# Altium integrated library Xilinx Spartan-6L.IntLib: 84 symbols (part 4 of 20)
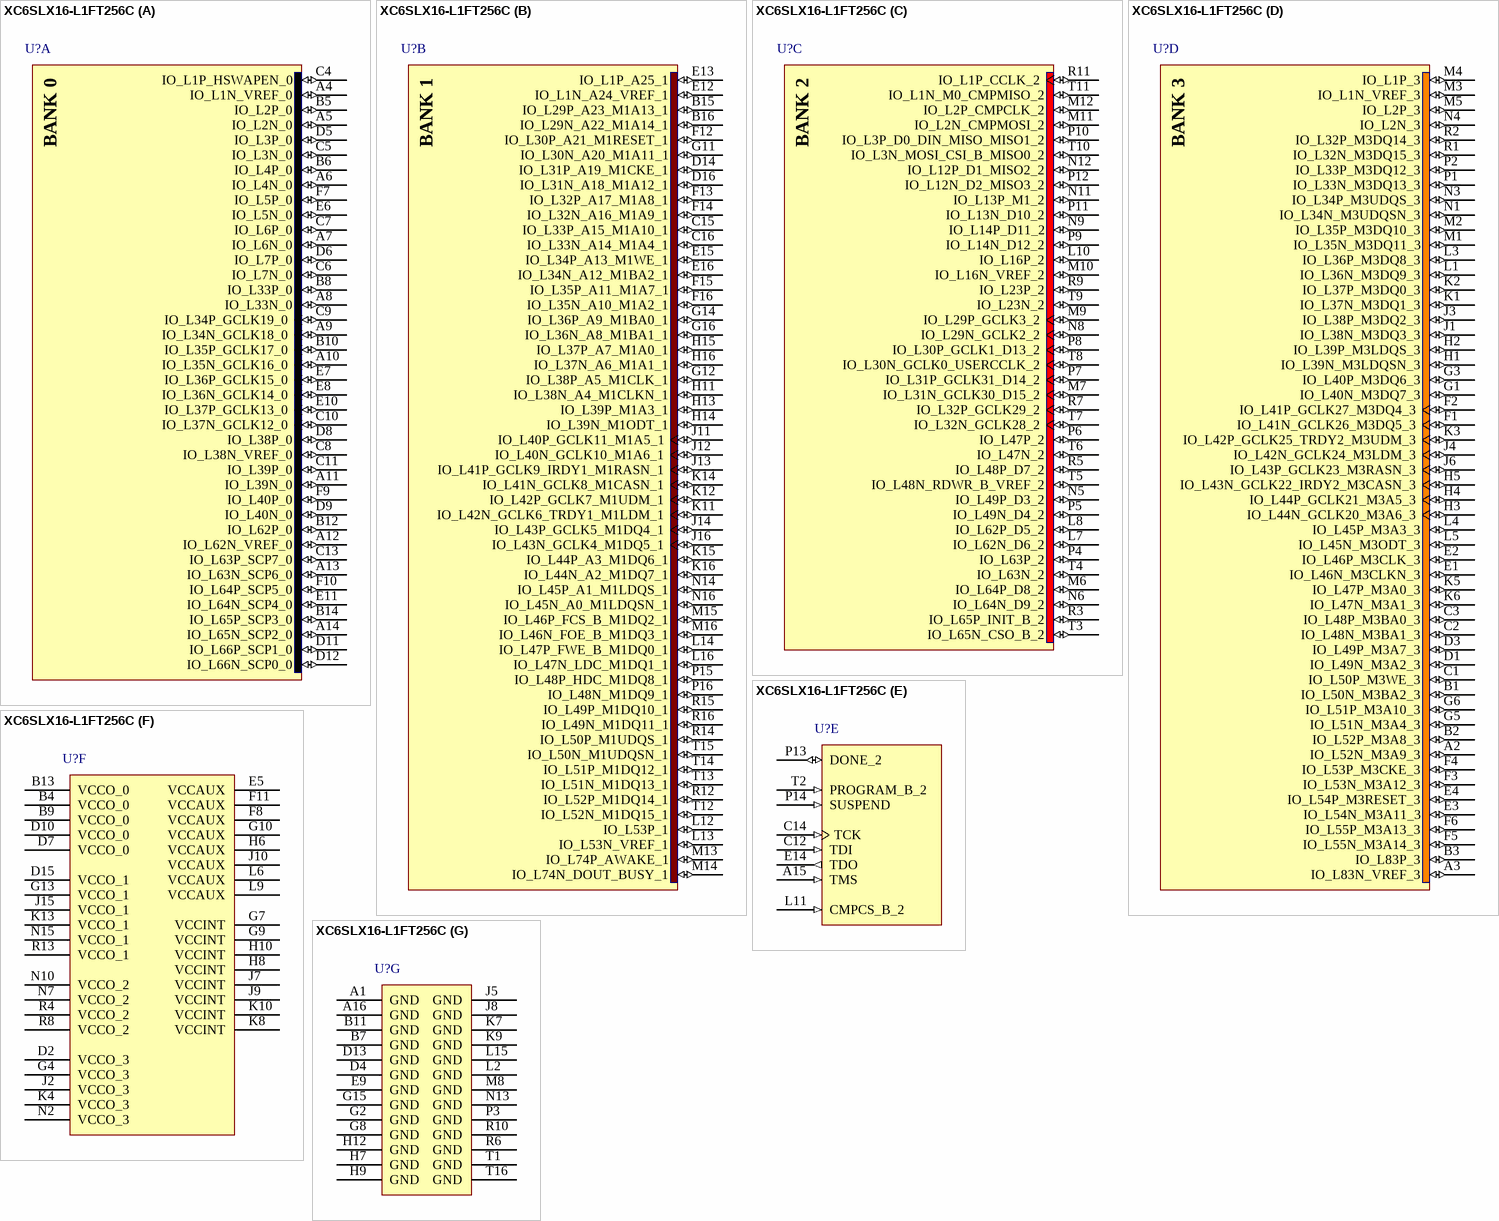
[diagram p113: symbol XC6SLX16-L1FT256C]

## XC6SLX16-L1FT256C
designator U?
Spartan-6 LX 1.0V FPGA, 186 User I/Os, 256-Ball Fine-Pitch Thin BGA (1.0mm Pitch), Low Power Version, Commercial Grade; DatasheetVersion: ver1.6, Nov-2010; PackageVersion: ver1.3, Oct-2007; PackageReference: FT256; PackageDescription: 256-Ball Fine Pitch Thin Ball Grid Array 1.00 mm Pitch (FT256); Code_JEDEC: MS-034-AAF-1*; ComponentLink1Description: Manufacturer URL; ComponentLink1URL: http://www.xilinx.com/; ComponentLink2Description: Spartan-6 Datasheet; ComponentLink2URL: http://www.xilinx.com/support/documentation/data_sheets/ds160.pdf; ComponentLink3Description: Spartan-6 Documents; ComponentLink3URL: http://www.xilinx.com/support/documentation/spartan-6.htm
footprint FT256 (BGA, 256-Leads, Body 17x17mm, Pitch 1mm)
part A pins: A4 IO_L1N_VREF_0 (io), A5 IO_L2N_0 (io), A6 IO_L4N_0 (io), A7 IO_L6N_0 (io), A8 IO_L33N_0 (io), A9 IO_L34N_GCLK18_0 (io), A10 IO_L35N_GCLK16_0 (io), A11 IO_L39N_0 (io), A12 IO_L62N_VREF_0 (io), A13 IO_L63N_SCP6_0 (io), A14 IO_L65N_SCP2_0 (io), B5 IO_L2P_0 (io), B6 IO_L4P_0 (io), B8 IO_L33P_0 (io), B10 IO_L35P_GCLK17_0 (io), B12 IO_L62P_0 (io), B14 IO_L65P_SCP3_0 (io), C4 IO_L1P_HSWAPEN_0 (io), C5 IO_L3N_0 (io), C6 IO_L7N_0 (io), C7 IO_L6P_0 (io), C8 IO_L38N_VREF_0 (io), C9 IO_L34P_GCLK19_0 (io), C10 IO_L37N_GCLK12_0 (io), C11 IO_L39P_0 (io), C13 IO_L63P_SCP7_0 (io), D5 IO_L3P_0 (io), D6 IO_L7P_0 (io), D8 IO_L38P_0 (io), D9 IO_L40N_0 (io), D11 IO_L66P_SCP1_0 (io), D12 IO_L66N_SCP0_0 (io), E6 IO_L5N_0 (io), E7 IO_L36P_GCLK15_0 (io), E8 IO_L36N_GCLK14_0 (io), E10 IO_L37P_GCLK13_0 (io), E11 IO_L64N_SCP4_0 (io), F7 IO_L5P_0 (io), F9 IO_L40P_0 (io), F10 IO_L64P_SCP5_0 (io)
part B pins: B15 IO_L29P_A23_M1A13_1 (io), B16 IO_L29N_A22_M1A14_1 (io), C15 IO_L33P_A15_M1A10_1 (io), C16 IO_L33N_A14_M1A4_1 (io), D14 IO_L31P_A19_M1CKE_1 (io), D16 IO_L31N_A18_M1A12_1 (io), E12 IO_L1N_A24_VREF_1 (io), E13 IO_L1P_A25_1 (io), E15 IO_L34P_A13_M1WE_1 (io), E16 IO_L34N_A12_M1BA2_1 (io), F12 IO_L30P_A21_M1RESET_1 (io), F13 IO_L32P_A17_M1A8_1 (io), F14 IO_L32N_A16_M1A9_1 (io), F15 IO_L35P_A11_M1A7_1 (io), F16 IO_L35N_A10_M1A2_1 (io), G11 IO_L30N_A20_M1A11_1 (io), G12 IO_L38P_A5_M1CLK_1 (io), G14 IO_L36P_A9_M1BA0_1 (io), G16 IO_L36N_A8_M1BA1_1 (io), H11 IO_L38N_A4_M1CLKN_1 (io), H13 IO_L39P_M1A3_1 (io), H14 IO_L39N_M1ODT_1 (io), H15 IO_L37P_A7_M1A0_1 (io), H16 IO_L37N_A6_M1A1_1 (io), J11 IO_L40P_GCLK11_M1A5_1 (io), J12 IO_L40N_GCLK10_M1A6_1 (io), J13 IO_L41P_GCLK9_IRDY1_M1RASN_1 (io), J14 IO_L43P_GCLK5_M1DQ4_1 (io), J16 IO_L43N_GCLK4_M1DQ5_1 (io), K11 IO_L42N_GCLK6_TRDY1_M1LDM_1 (io), K12 IO_L42P_GCLK7_M1UDM_1 (io), K14 IO_L41N_GCLK8_M1CASN_1 (io), K15 IO_L44P_A3_M1DQ6_1 (io), K16 IO_L44N_A2_M1DQ7_1 (io), L12 IO_L53P_1 (io), L13 IO_L53N_VREF_1 (io), L14 IO_L47P_FWE_B_M1DQ0_1 (io), L16 IO_L47N_LDC_M1DQ1_1 (io), M13 IO_L74P_AWAKE_1 (io), M14 IO_L74N_DOUT_BUSY_1 (io), M15 IO_L46P_FCS_B_M1DQ2_1 (io), M16 IO_L46N_FOE_B_M1DQ3_1 (io), N14 IO_L45P_A1_M1LDQS_1 (io), N16 IO_L45N_A0_M1LDQSN_1 (io), P15 IO_L48P_HDC_M1DQ8_1 (io), P16 IO_L48N_M1DQ9_1 (io), R12 IO_L52P_M1DQ14_1 (io), R14 IO_L50P_M1UDQS_1 (io), R15 IO_L49P_M1DQ10_1 (io), R16 IO_L49N_M1DQ11_1 (io), T12 IO_L52N_M1DQ15_1 (io), T13 IO_L51N_M1DQ13_1 (io), T14 IO_L51P_M1DQ12_1 (io), T15 IO_L50N_M1UDQSN_1 (io)
part C pins: L7 IO_L62N_D6_2 (io), L8 IO_L62P_D5_2 (io), L10 IO_L16P_2 (io), M6 IO_L64P_D8_2 (io), M7 IO_L31N_GCLK30_D15_2 (io), M9 IO_L29P_GCLK3_2 (io), M10 IO_L16N_VREF_2 (io), M11 IO_L2N_CMPMOSI_2 (io), M12 IO_L2P_CMPCLK_2 (io), N5 IO_L49P_D3_2 (io), N6 IO_L64N_D9_2 (io), N8 IO_L29N_GCLK2_2 (io), N9 IO_L14P_D11_2 (io), N11 IO_L13P_M1_2 (io), N12 IO_L12P_D1_MISO2_2 (io), P4 IO_L63P_2 (io), P5 IO_L49N_D4_2 (io), P6 IO_L47P_2 (io), P7 IO_L31P_GCLK31_D14_2 (io), P8 IO_L30P_GCLK1_D13_2 (io), P9 IO_L14N_D12_2 (io), P10 IO_L3P_D0_DIN_MISO_MISO1_2 (io), P11 IO_L13N_D10_2 (io), P12 IO_L12N_D2_MISO3_2 (io), R3 IO_L65P_INIT_B_2 (io), R5 IO_L48P_D7_2 (io), R7 IO_L32P_GCLK29_2 (io), R9 IO_L23P_2 (io), R11 IO_L1P_CCLK_2 (io), T3 IO_L65N_CSO_B_2 (io), T4 IO_L63N_2 (io), T5 IO_L48N_RDWR_B_VREF_2 (io), T6 IO_L47N_2 (io), T7 IO_L32N_GCLK28_2 (io), T8 IO_L30N_GCLK0_USERCCLK_2 (io), T9 IO_L23N_2 (io), T10 IO_L3N_MOSI_CSI_B_MISO0_2 (io), T11 IO_L1N_M0_CMPMISO_2 (io)
part D pins: A2 IO_L52N_M3A9_3 (io), A3 IO_L83N_VREF_3 (io), B1 IO_L50N_M3BA2_3 (io), B2 IO_L52P_M3A8_3 (io), B3 IO_L83P_3 (io), C1 IO_L50P_M3WE_3 (io), C2 IO_L48N_M3BA1_3 (io), C3 IO_L48P_M3BA0_3 (io), D1 IO_L49N_M3A2_3 (io), D3 IO_L49P_M3A7_3 (io), E1 IO_L46N_M3CLKN_3 (io), E2 IO_L46P_M3CLK_3 (io), E3 IO_L54N_M3A11_3 (io), E4 IO_L54P_M3RESET_3 (io), F1 IO_L41N_GCLK26_M3DQ5_3 (io), F2 IO_L41P_GCLK27_M3DQ4_3 (io), F3 IO_L53N_M3A12_3 (io), F4 IO_L53P_M3CKE_3 (io), F5 IO_L55N_M3A14_3 (io), F6 IO_L55P_M3A13_3 (io), G1 IO_L40N_M3DQ7_3 (io), G3 IO_L40P_M3DQ6_3 (io), G5 IO_L51N_M3A4_3 (io), G6 IO_L51P_M3A10_3 (io), H1 IO_L39N_M3LDQSN_3 (io), H2 IO_L39P_M3LDQS_3 (io), H3 IO_L44N_GCLK20_M3A6_3 (io), H4 IO_L44P_GCLK21_M3A5_3 (io), H5 IO_L43N_GCLK22_IRDY2_M3CASN_3 (io), J1 IO_L38N_M3DQ3_3 (io), J3 IO_L38P_M3DQ2_3 (io), J4 IO_L42N_GCLK24_M3LDM_3 (io), J6 IO_L43P_GCLK23_M3RASN_3 (io), K1 IO_L37N_M3DQ1_3 (io), K2 IO_L37P_M3DQ0_3 (io), K3 IO_L42P_GCLK25_TRDY2_M3UDM_3 (io), K5 IO_L47P_M3A0_3 (io), K6 IO_L47N_M3A1_3 (io), L1 IO_L36N_M3DQ9_3 (io), L3 IO_L36P_M3DQ8_3 (io), L4 IO_L45P_M3A3_3 (io), L5 IO_L45N_M3ODT_3 (io), M1 IO_L35N_M3DQ11_3 (io), M2 IO_L35P_M3DQ10_3 (io), M3 IO_L1N_VREF_3 (io), M4 IO_L1P_3 (io), M5 IO_L2P_3 (io), N1 IO_L34N_M3UDQSN_3 (io), N3 IO_L34P_M3UDQS_3 (io), N4 IO_L2N_3 (io), P1 IO_L33N_M3DQ13_3 (io), P2 IO_L33P_M3DQ12_3 (io), R1 IO_L32N_M3DQ15_3 (io), R2 IO_L32P_M3DQ14_3 (io)
part E pins: A15 TMS (in), C12 TDI (in), C14 TCK (in), E14 TDO (out), L11 CMPCS_B_2 (in), P13 DONE_2 (io), P14 SUSPEND (in), T2 PROGRAM_B_2 (in)
part F pins: B4 VCCO_0 (power), B9 VCCO_0 (power), B13 VCCO_0 (power), D2 VCCO_3 (power), D7 VCCO_0 (power), D10 VCCO_0 (power), D15 VCCO_1 (power), E5 VCCAUX (power), F8 VCCAUX (power), F11 VCCAUX (power), G4 VCCO_3 (power), G7 VCCINT (power), G9 VCCINT (power), G10 VCCAUX (power), G13 VCCO_1 (power), H6 VCCAUX (power), H8 VCCINT (power), H10 VCCINT (power), J2 VCCO_3 (power), J7 VCCINT (power), J9 VCCINT (power), J10 VCCAUX (power), J15 VCCO_1 (power), K4 VCCO_3 (power), K8 VCCINT (power), K10 VCCINT (power), K13 VCCO_1 (power), L6 VCCAUX (power), L9 VCCAUX (power), N2 VCCO_3 (power), N7 VCCO_2 (power), N10 VCCO_2 (power), N15 VCCO_1 (power), R4 VCCO_2 (power), R8 VCCO_2 (power), R13 VCCO_1 (power)
part G pins: A1 GND (power), A16 GND (power), B7 GND (power), B11 GND (power), D4 GND (power), D13 GND (power), E9 GND (power), G2 GND (power), G8 GND (power), G15 GND (power), H7 GND (power), H9 GND (power), H12 GND (power), J5 GND (power), J8 GND (power), K7 GND (power), K9 GND (power), L2 GND (power), L15 GND (power), M8 GND (power), N13 GND (power), P3 GND (power), R6 GND (power), R10 GND (power), T1 GND (power), T16 GND (power)
part A text: BANK 0
part B text: BANK 1
part C text: BANK 2
part D text: BANK 3

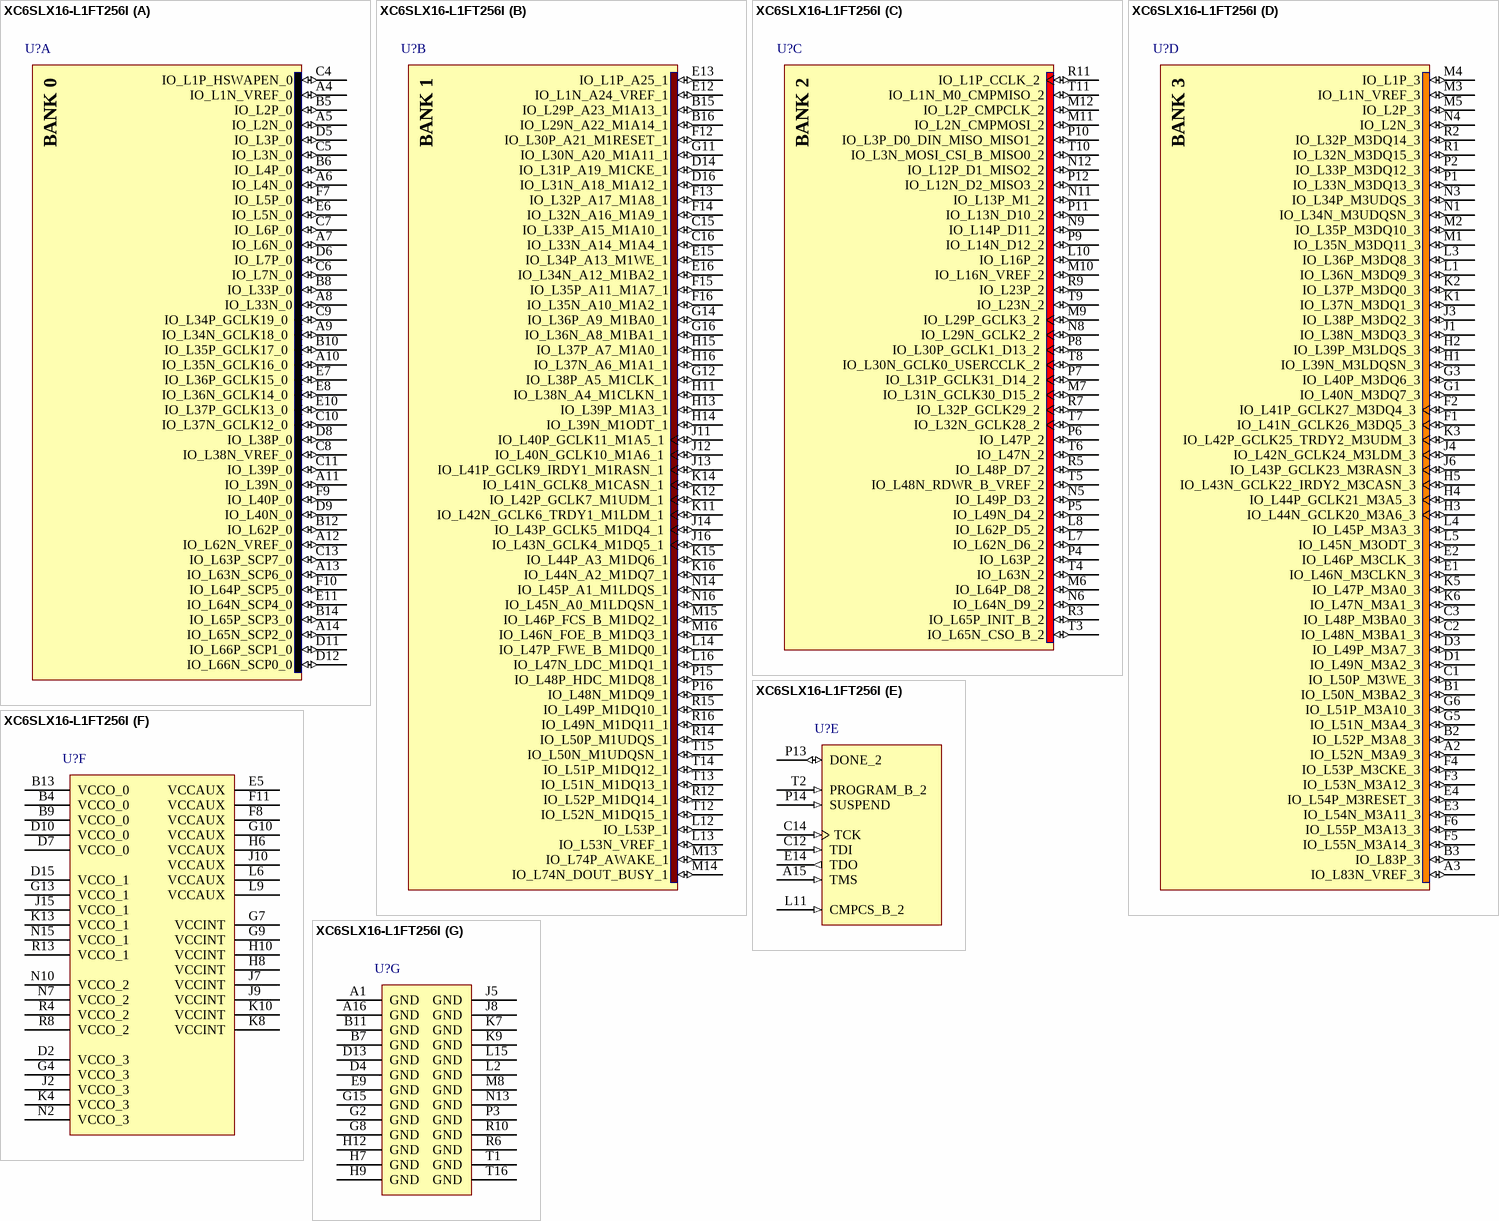
[diagram p20: symbol XC6SLX16-L1FT256I]

## XC6SLX16-L1FT256I
designator U?
Spartan-6 LX 1.0V FPGA, 186 User I/Os, 256-Ball Fine-Pitch Thin BGA (1.0mm Pitch), Low Power Version, Industrial Grade; DatasheetVersion: ver1.6, Nov-2010; PackageVersion: ver1.3, Oct-2007; PackageReference: FT256; PackageDescription: 256-Ball Fine Pitch Thin Ball Grid Array 1.00 mm Pitch (FT256); Code_JEDEC: MS-034-AAF-1*; ComponentLink1Description: Manufacturer URL; ComponentLink1URL: http://www.xilinx.com/; ComponentLink2Description: Spartan-6 Datasheet; ComponentLink2URL: http://www.xilinx.com/support/documentation/data_sheets/ds160.pdf; ComponentLink3Description: Spartan-6 Documents; ComponentLink3URL: http://www.xilinx.com/support/documentation/spartan-6.htm
footprint FT256 (BGA, 256-Leads, Body 17x17mm, Pitch 1mm)
part A pins: A4 IO_L1N_VREF_0 (io), A5 IO_L2N_0 (io), A6 IO_L4N_0 (io), A7 IO_L6N_0 (io), A8 IO_L33N_0 (io), A9 IO_L34N_GCLK18_0 (io), A10 IO_L35N_GCLK16_0 (io), A11 IO_L39N_0 (io), A12 IO_L62N_VREF_0 (io), A13 IO_L63N_SCP6_0 (io), A14 IO_L65N_SCP2_0 (io), B5 IO_L2P_0 (io), B6 IO_L4P_0 (io), B8 IO_L33P_0 (io), B10 IO_L35P_GCLK17_0 (io), B12 IO_L62P_0 (io), B14 IO_L65P_SCP3_0 (io), C4 IO_L1P_HSWAPEN_0 (io), C5 IO_L3N_0 (io), C6 IO_L7N_0 (io), C7 IO_L6P_0 (io), C8 IO_L38N_VREF_0 (io), C9 IO_L34P_GCLK19_0 (io), C10 IO_L37N_GCLK12_0 (io), C11 IO_L39P_0 (io), C13 IO_L63P_SCP7_0 (io), D5 IO_L3P_0 (io), D6 IO_L7P_0 (io), D8 IO_L38P_0 (io), D9 IO_L40N_0 (io), D11 IO_L66P_SCP1_0 (io), D12 IO_L66N_SCP0_0 (io), E6 IO_L5N_0 (io), E7 IO_L36P_GCLK15_0 (io), E8 IO_L36N_GCLK14_0 (io), E10 IO_L37P_GCLK13_0 (io), E11 IO_L64N_SCP4_0 (io), F7 IO_L5P_0 (io), F9 IO_L40P_0 (io), F10 IO_L64P_SCP5_0 (io)
part B pins: B15 IO_L29P_A23_M1A13_1 (io), B16 IO_L29N_A22_M1A14_1 (io), C15 IO_L33P_A15_M1A10_1 (io), C16 IO_L33N_A14_M1A4_1 (io), D14 IO_L31P_A19_M1CKE_1 (io), D16 IO_L31N_A18_M1A12_1 (io), E12 IO_L1N_A24_VREF_1 (io), E13 IO_L1P_A25_1 (io), E15 IO_L34P_A13_M1WE_1 (io), E16 IO_L34N_A12_M1BA2_1 (io), F12 IO_L30P_A21_M1RESET_1 (io), F13 IO_L32P_A17_M1A8_1 (io), F14 IO_L32N_A16_M1A9_1 (io), F15 IO_L35P_A11_M1A7_1 (io), F16 IO_L35N_A10_M1A2_1 (io), G11 IO_L30N_A20_M1A11_1 (io), G12 IO_L38P_A5_M1CLK_1 (io), G14 IO_L36P_A9_M1BA0_1 (io), G16 IO_L36N_A8_M1BA1_1 (io), H11 IO_L38N_A4_M1CLKN_1 (io), H13 IO_L39P_M1A3_1 (io), H14 IO_L39N_M1ODT_1 (io), H15 IO_L37P_A7_M1A0_1 (io), H16 IO_L37N_A6_M1A1_1 (io), J11 IO_L40P_GCLK11_M1A5_1 (io), J12 IO_L40N_GCLK10_M1A6_1 (io), J13 IO_L41P_GCLK9_IRDY1_M1RASN_1 (io), J14 IO_L43P_GCLK5_M1DQ4_1 (io), J16 IO_L43N_GCLK4_M1DQ5_1 (io), K11 IO_L42N_GCLK6_TRDY1_M1LDM_1 (io), K12 IO_L42P_GCLK7_M1UDM_1 (io), K14 IO_L41N_GCLK8_M1CASN_1 (io), K15 IO_L44P_A3_M1DQ6_1 (io), K16 IO_L44N_A2_M1DQ7_1 (io), L12 IO_L53P_1 (io), L13 IO_L53N_VREF_1 (io), L14 IO_L47P_FWE_B_M1DQ0_1 (io), L16 IO_L47N_LDC_M1DQ1_1 (io), M13 IO_L74P_AWAKE_1 (io), M14 IO_L74N_DOUT_BUSY_1 (io), M15 IO_L46P_FCS_B_M1DQ2_1 (io), M16 IO_L46N_FOE_B_M1DQ3_1 (io), N14 IO_L45P_A1_M1LDQS_1 (io), N16 IO_L45N_A0_M1LDQSN_1 (io), P15 IO_L48P_HDC_M1DQ8_1 (io), P16 IO_L48N_M1DQ9_1 (io), R12 IO_L52P_M1DQ14_1 (io), R14 IO_L50P_M1UDQS_1 (io), R15 IO_L49P_M1DQ10_1 (io), R16 IO_L49N_M1DQ11_1 (io), T12 IO_L52N_M1DQ15_1 (io), T13 IO_L51N_M1DQ13_1 (io), T14 IO_L51P_M1DQ12_1 (io), T15 IO_L50N_M1UDQSN_1 (io)
part C pins: L7 IO_L62N_D6_2 (io), L8 IO_L62P_D5_2 (io), L10 IO_L16P_2 (io), M6 IO_L64P_D8_2 (io), M7 IO_L31N_GCLK30_D15_2 (io), M9 IO_L29P_GCLK3_2 (io), M10 IO_L16N_VREF_2 (io), M11 IO_L2N_CMPMOSI_2 (io), M12 IO_L2P_CMPCLK_2 (io), N5 IO_L49P_D3_2 (io), N6 IO_L64N_D9_2 (io), N8 IO_L29N_GCLK2_2 (io), N9 IO_L14P_D11_2 (io), N11 IO_L13P_M1_2 (io), N12 IO_L12P_D1_MISO2_2 (io), P4 IO_L63P_2 (io), P5 IO_L49N_D4_2 (io), P6 IO_L47P_2 (io), P7 IO_L31P_GCLK31_D14_2 (io), P8 IO_L30P_GCLK1_D13_2 (io), P9 IO_L14N_D12_2 (io), P10 IO_L3P_D0_DIN_MISO_MISO1_2 (io), P11 IO_L13N_D10_2 (io), P12 IO_L12N_D2_MISO3_2 (io), R3 IO_L65P_INIT_B_2 (io), R5 IO_L48P_D7_2 (io), R7 IO_L32P_GCLK29_2 (io), R9 IO_L23P_2 (io), R11 IO_L1P_CCLK_2 (io), T3 IO_L65N_CSO_B_2 (io), T4 IO_L63N_2 (io), T5 IO_L48N_RDWR_B_VREF_2 (io), T6 IO_L47N_2 (io), T7 IO_L32N_GCLK28_2 (io), T8 IO_L30N_GCLK0_USERCCLK_2 (io), T9 IO_L23N_2 (io), T10 IO_L3N_MOSI_CSI_B_MISO0_2 (io), T11 IO_L1N_M0_CMPMISO_2 (io)
part D pins: A2 IO_L52N_M3A9_3 (io), A3 IO_L83N_VREF_3 (io), B1 IO_L50N_M3BA2_3 (io), B2 IO_L52P_M3A8_3 (io), B3 IO_L83P_3 (io), C1 IO_L50P_M3WE_3 (io), C2 IO_L48N_M3BA1_3 (io), C3 IO_L48P_M3BA0_3 (io), D1 IO_L49N_M3A2_3 (io), D3 IO_L49P_M3A7_3 (io), E1 IO_L46N_M3CLKN_3 (io), E2 IO_L46P_M3CLK_3 (io), E3 IO_L54N_M3A11_3 (io), E4 IO_L54P_M3RESET_3 (io), F1 IO_L41N_GCLK26_M3DQ5_3 (io), F2 IO_L41P_GCLK27_M3DQ4_3 (io), F3 IO_L53N_M3A12_3 (io), F4 IO_L53P_M3CKE_3 (io), F5 IO_L55N_M3A14_3 (io), F6 IO_L55P_M3A13_3 (io), G1 IO_L40N_M3DQ7_3 (io), G3 IO_L40P_M3DQ6_3 (io), G5 IO_L51N_M3A4_3 (io), G6 IO_L51P_M3A10_3 (io), H1 IO_L39N_M3LDQSN_3 (io), H2 IO_L39P_M3LDQS_3 (io), H3 IO_L44N_GCLK20_M3A6_3 (io), H4 IO_L44P_GCLK21_M3A5_3 (io), H5 IO_L43N_GCLK22_IRDY2_M3CASN_3 (io), J1 IO_L38N_M3DQ3_3 (io), J3 IO_L38P_M3DQ2_3 (io), J4 IO_L42N_GCLK24_M3LDM_3 (io), J6 IO_L43P_GCLK23_M3RASN_3 (io), K1 IO_L37N_M3DQ1_3 (io), K2 IO_L37P_M3DQ0_3 (io), K3 IO_L42P_GCLK25_TRDY2_M3UDM_3 (io), K5 IO_L47P_M3A0_3 (io), K6 IO_L47N_M3A1_3 (io), L1 IO_L36N_M3DQ9_3 (io), L3 IO_L36P_M3DQ8_3 (io), L4 IO_L45P_M3A3_3 (io), L5 IO_L45N_M3ODT_3 (io), M1 IO_L35N_M3DQ11_3 (io), M2 IO_L35P_M3DQ10_3 (io), M3 IO_L1N_VREF_3 (io), M4 IO_L1P_3 (io), M5 IO_L2P_3 (io), N1 IO_L34N_M3UDQSN_3 (io), N3 IO_L34P_M3UDQS_3 (io), N4 IO_L2N_3 (io), P1 IO_L33N_M3DQ13_3 (io), P2 IO_L33P_M3DQ12_3 (io), R1 IO_L32N_M3DQ15_3 (io), R2 IO_L32P_M3DQ14_3 (io)
part E pins: A15 TMS (in), C12 TDI (in), C14 TCK (in), E14 TDO (out), L11 CMPCS_B_2 (in), P13 DONE_2 (io), P14 SUSPEND (in), T2 PROGRAM_B_2 (in)
part F pins: B4 VCCO_0 (power), B9 VCCO_0 (power), B13 VCCO_0 (power), D2 VCCO_3 (power), D7 VCCO_0 (power), D10 VCCO_0 (power), D15 VCCO_1 (power), E5 VCCAUX (power), F8 VCCAUX (power), F11 VCCAUX (power), G4 VCCO_3 (power), G7 VCCINT (power), G9 VCCINT (power), G10 VCCAUX (power), G13 VCCO_1 (power), H6 VCCAUX (power), H8 VCCINT (power), H10 VCCINT (power), J2 VCCO_3 (power), J7 VCCINT (power), J9 VCCINT (power), J10 VCCAUX (power), J15 VCCO_1 (power), K4 VCCO_3 (power), K8 VCCINT (power), K10 VCCINT (power), K13 VCCO_1 (power), L6 VCCAUX (power), L9 VCCAUX (power), N2 VCCO_3 (power), N7 VCCO_2 (power), N10 VCCO_2 (power), N15 VCCO_1 (power), R4 VCCO_2 (power), R8 VCCO_2 (power), R13 VCCO_1 (power)
part G pins: A1 GND (power), A16 GND (power), B7 GND (power), B11 GND (power), D4 GND (power), D13 GND (power), E9 GND (power), G2 GND (power), G8 GND (power), G15 GND (power), H7 GND (power), H9 GND (power), H12 GND (power), J5 GND (power), J8 GND (power), K7 GND (power), K9 GND (power), L2 GND (power), L15 GND (power), M8 GND (power), N13 GND (power), P3 GND (power), R6 GND (power), R10 GND (power), T1 GND (power), T16 GND (power)
part A text: BANK 0
part B text: BANK 1
part C text: BANK 2
part D text: BANK 3

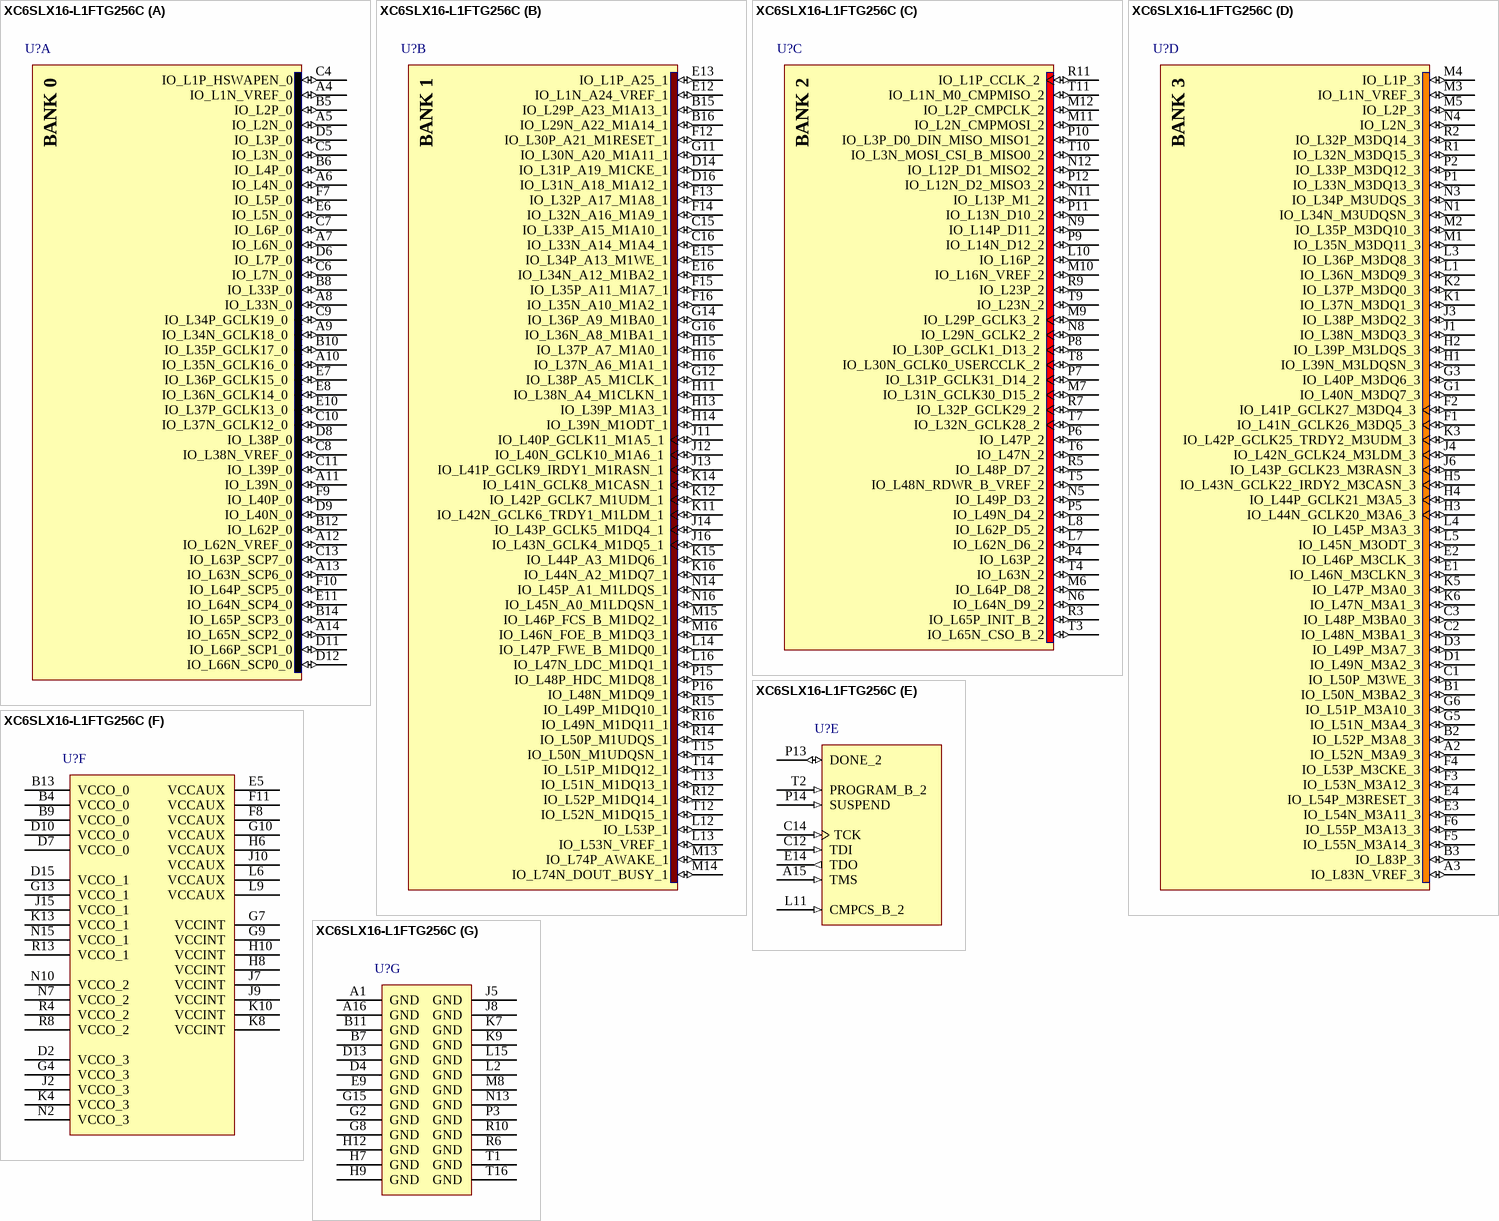
[diagram p21: symbol XC6SLX16-L1FTG256C]

## XC6SLX16-L1FTG256C
designator U?
Spartan-6 LX 1.0V FPGA, 186 User I/Os, 256-Ball Fine-Pitch Thin BGA (1.0mm Pitch), Low Power Version, Commercial Grade, Pb-Free; DatasheetVersion: ver1.6, Nov-2010; PackageVersion: ver1.3, Oct-2007; PackageReference: FTG256; PackageDescription: 256-Ball Fine Pitch Thin Ball Grid Array 1.00 mm Pitch (FTG256) - Pb-Free; Code_JEDEC: MS-034-AAF-1*; ComponentLink1Description: Manufacturer URL; ComponentLink1URL: http://www.xilinx.com/; ComponentLink2Description: Spartan-6 Datasheet; ComponentLink2URL: http://www.xilinx.com/support/documentation/data_sheets/ds160.pdf; ComponentLink3Description: Spartan-6 Documents; ComponentLink3URL: http://www.xilinx.com/support/documentation/spartan-6.htm
footprint FTG256 (BGA, 256-Leads, Body 17x17mm, Pitch 1mm)
part A pins: A4 IO_L1N_VREF_0 (io), A5 IO_L2N_0 (io), A6 IO_L4N_0 (io), A7 IO_L6N_0 (io), A8 IO_L33N_0 (io), A9 IO_L34N_GCLK18_0 (io), A10 IO_L35N_GCLK16_0 (io), A11 IO_L39N_0 (io), A12 IO_L62N_VREF_0 (io), A13 IO_L63N_SCP6_0 (io), A14 IO_L65N_SCP2_0 (io), B5 IO_L2P_0 (io), B6 IO_L4P_0 (io), B8 IO_L33P_0 (io), B10 IO_L35P_GCLK17_0 (io), B12 IO_L62P_0 (io), B14 IO_L65P_SCP3_0 (io), C4 IO_L1P_HSWAPEN_0 (io), C5 IO_L3N_0 (io), C6 IO_L7N_0 (io), C7 IO_L6P_0 (io), C8 IO_L38N_VREF_0 (io), C9 IO_L34P_GCLK19_0 (io), C10 IO_L37N_GCLK12_0 (io), C11 IO_L39P_0 (io), C13 IO_L63P_SCP7_0 (io), D5 IO_L3P_0 (io), D6 IO_L7P_0 (io), D8 IO_L38P_0 (io), D9 IO_L40N_0 (io), D11 IO_L66P_SCP1_0 (io), D12 IO_L66N_SCP0_0 (io), E6 IO_L5N_0 (io), E7 IO_L36P_GCLK15_0 (io), E8 IO_L36N_GCLK14_0 (io), E10 IO_L37P_GCLK13_0 (io), E11 IO_L64N_SCP4_0 (io), F7 IO_L5P_0 (io), F9 IO_L40P_0 (io), F10 IO_L64P_SCP5_0 (io)
part B pins: B15 IO_L29P_A23_M1A13_1 (io), B16 IO_L29N_A22_M1A14_1 (io), C15 IO_L33P_A15_M1A10_1 (io), C16 IO_L33N_A14_M1A4_1 (io), D14 IO_L31P_A19_M1CKE_1 (io), D16 IO_L31N_A18_M1A12_1 (io), E12 IO_L1N_A24_VREF_1 (io), E13 IO_L1P_A25_1 (io), E15 IO_L34P_A13_M1WE_1 (io), E16 IO_L34N_A12_M1BA2_1 (io), F12 IO_L30P_A21_M1RESET_1 (io), F13 IO_L32P_A17_M1A8_1 (io), F14 IO_L32N_A16_M1A9_1 (io), F15 IO_L35P_A11_M1A7_1 (io), F16 IO_L35N_A10_M1A2_1 (io), G11 IO_L30N_A20_M1A11_1 (io), G12 IO_L38P_A5_M1CLK_1 (io), G14 IO_L36P_A9_M1BA0_1 (io), G16 IO_L36N_A8_M1BA1_1 (io), H11 IO_L38N_A4_M1CLKN_1 (io), H13 IO_L39P_M1A3_1 (io), H14 IO_L39N_M1ODT_1 (io), H15 IO_L37P_A7_M1A0_1 (io), H16 IO_L37N_A6_M1A1_1 (io), J11 IO_L40P_GCLK11_M1A5_1 (io), J12 IO_L40N_GCLK10_M1A6_1 (io), J13 IO_L41P_GCLK9_IRDY1_M1RASN_1 (io), J14 IO_L43P_GCLK5_M1DQ4_1 (io), J16 IO_L43N_GCLK4_M1DQ5_1 (io), K11 IO_L42N_GCLK6_TRDY1_M1LDM_1 (io), K12 IO_L42P_GCLK7_M1UDM_1 (io), K14 IO_L41N_GCLK8_M1CASN_1 (io), K15 IO_L44P_A3_M1DQ6_1 (io), K16 IO_L44N_A2_M1DQ7_1 (io), L12 IO_L53P_1 (io), L13 IO_L53N_VREF_1 (io), L14 IO_L47P_FWE_B_M1DQ0_1 (io), L16 IO_L47N_LDC_M1DQ1_1 (io), M13 IO_L74P_AWAKE_1 (io), M14 IO_L74N_DOUT_BUSY_1 (io), M15 IO_L46P_FCS_B_M1DQ2_1 (io), M16 IO_L46N_FOE_B_M1DQ3_1 (io), N14 IO_L45P_A1_M1LDQS_1 (io), N16 IO_L45N_A0_M1LDQSN_1 (io), P15 IO_L48P_HDC_M1DQ8_1 (io), P16 IO_L48N_M1DQ9_1 (io), R12 IO_L52P_M1DQ14_1 (io), R14 IO_L50P_M1UDQS_1 (io), R15 IO_L49P_M1DQ10_1 (io), R16 IO_L49N_M1DQ11_1 (io), T12 IO_L52N_M1DQ15_1 (io), T13 IO_L51N_M1DQ13_1 (io), T14 IO_L51P_M1DQ12_1 (io), T15 IO_L50N_M1UDQSN_1 (io)
part C pins: L7 IO_L62N_D6_2 (io), L8 IO_L62P_D5_2 (io), L10 IO_L16P_2 (io), M6 IO_L64P_D8_2 (io), M7 IO_L31N_GCLK30_D15_2 (io), M9 IO_L29P_GCLK3_2 (io), M10 IO_L16N_VREF_2 (io), M11 IO_L2N_CMPMOSI_2 (io), M12 IO_L2P_CMPCLK_2 (io), N5 IO_L49P_D3_2 (io), N6 IO_L64N_D9_2 (io), N8 IO_L29N_GCLK2_2 (io), N9 IO_L14P_D11_2 (io), N11 IO_L13P_M1_2 (io), N12 IO_L12P_D1_MISO2_2 (io), P4 IO_L63P_2 (io), P5 IO_L49N_D4_2 (io), P6 IO_L47P_2 (io), P7 IO_L31P_GCLK31_D14_2 (io), P8 IO_L30P_GCLK1_D13_2 (io), P9 IO_L14N_D12_2 (io), P10 IO_L3P_D0_DIN_MISO_MISO1_2 (io), P11 IO_L13N_D10_2 (io), P12 IO_L12N_D2_MISO3_2 (io), R3 IO_L65P_INIT_B_2 (io), R5 IO_L48P_D7_2 (io), R7 IO_L32P_GCLK29_2 (io), R9 IO_L23P_2 (io), R11 IO_L1P_CCLK_2 (io), T3 IO_L65N_CSO_B_2 (io), T4 IO_L63N_2 (io), T5 IO_L48N_RDWR_B_VREF_2 (io), T6 IO_L47N_2 (io), T7 IO_L32N_GCLK28_2 (io), T8 IO_L30N_GCLK0_USERCCLK_2 (io), T9 IO_L23N_2 (io), T10 IO_L3N_MOSI_CSI_B_MISO0_2 (io), T11 IO_L1N_M0_CMPMISO_2 (io)
part D pins: A2 IO_L52N_M3A9_3 (io), A3 IO_L83N_VREF_3 (io), B1 IO_L50N_M3BA2_3 (io), B2 IO_L52P_M3A8_3 (io), B3 IO_L83P_3 (io), C1 IO_L50P_M3WE_3 (io), C2 IO_L48N_M3BA1_3 (io), C3 IO_L48P_M3BA0_3 (io), D1 IO_L49N_M3A2_3 (io), D3 IO_L49P_M3A7_3 (io), E1 IO_L46N_M3CLKN_3 (io), E2 IO_L46P_M3CLK_3 (io), E3 IO_L54N_M3A11_3 (io), E4 IO_L54P_M3RESET_3 (io), F1 IO_L41N_GCLK26_M3DQ5_3 (io), F2 IO_L41P_GCLK27_M3DQ4_3 (io), F3 IO_L53N_M3A12_3 (io), F4 IO_L53P_M3CKE_3 (io), F5 IO_L55N_M3A14_3 (io), F6 IO_L55P_M3A13_3 (io), G1 IO_L40N_M3DQ7_3 (io), G3 IO_L40P_M3DQ6_3 (io), G5 IO_L51N_M3A4_3 (io), G6 IO_L51P_M3A10_3 (io), H1 IO_L39N_M3LDQSN_3 (io), H2 IO_L39P_M3LDQS_3 (io), H3 IO_L44N_GCLK20_M3A6_3 (io), H4 IO_L44P_GCLK21_M3A5_3 (io), H5 IO_L43N_GCLK22_IRDY2_M3CASN_3 (io), J1 IO_L38N_M3DQ3_3 (io), J3 IO_L38P_M3DQ2_3 (io), J4 IO_L42N_GCLK24_M3LDM_3 (io), J6 IO_L43P_GCLK23_M3RASN_3 (io), K1 IO_L37N_M3DQ1_3 (io), K2 IO_L37P_M3DQ0_3 (io), K3 IO_L42P_GCLK25_TRDY2_M3UDM_3 (io), K5 IO_L47P_M3A0_3 (io), K6 IO_L47N_M3A1_3 (io), L1 IO_L36N_M3DQ9_3 (io), L3 IO_L36P_M3DQ8_3 (io), L4 IO_L45P_M3A3_3 (io), L5 IO_L45N_M3ODT_3 (io), M1 IO_L35N_M3DQ11_3 (io), M2 IO_L35P_M3DQ10_3 (io), M3 IO_L1N_VREF_3 (io), M4 IO_L1P_3 (io), M5 IO_L2P_3 (io), N1 IO_L34N_M3UDQSN_3 (io), N3 IO_L34P_M3UDQS_3 (io), N4 IO_L2N_3 (io), P1 IO_L33N_M3DQ13_3 (io), P2 IO_L33P_M3DQ12_3 (io), R1 IO_L32N_M3DQ15_3 (io), R2 IO_L32P_M3DQ14_3 (io)
part E pins: A15 TMS (in), C12 TDI (in), C14 TCK (in), E14 TDO (out), L11 CMPCS_B_2 (in), P13 DONE_2 (io), P14 SUSPEND (in), T2 PROGRAM_B_2 (in)
part F pins: B4 VCCO_0 (power), B9 VCCO_0 (power), B13 VCCO_0 (power), D2 VCCO_3 (power), D7 VCCO_0 (power), D10 VCCO_0 (power), D15 VCCO_1 (power), E5 VCCAUX (power), F8 VCCAUX (power), F11 VCCAUX (power), G4 VCCO_3 (power), G7 VCCINT (power), G9 VCCINT (power), G10 VCCAUX (power), G13 VCCO_1 (power), H6 VCCAUX (power), H8 VCCINT (power), H10 VCCINT (power), J2 VCCO_3 (power), J7 VCCINT (power), J9 VCCINT (power), J10 VCCAUX (power), J15 VCCO_1 (power), K4 VCCO_3 (power), K8 VCCINT (power), K10 VCCINT (power), K13 VCCO_1 (power), L6 VCCAUX (power), L9 VCCAUX (power), N2 VCCO_3 (power), N7 VCCO_2 (power), N10 VCCO_2 (power), N15 VCCO_1 (power), R4 VCCO_2 (power), R8 VCCO_2 (power), R13 VCCO_1 (power)
part G pins: A1 GND (power), A16 GND (power), B7 GND (power), B11 GND (power), D4 GND (power), D13 GND (power), E9 GND (power), G2 GND (power), G8 GND (power), G15 GND (power), H7 GND (power), H9 GND (power), H12 GND (power), J5 GND (power), J8 GND (power), K7 GND (power), K9 GND (power), L2 GND (power), L15 GND (power), M8 GND (power), N13 GND (power), P3 GND (power), R6 GND (power), R10 GND (power), T1 GND (power), T16 GND (power)
part A text: BANK 0
part B text: BANK 1
part C text: BANK 2
part D text: BANK 3

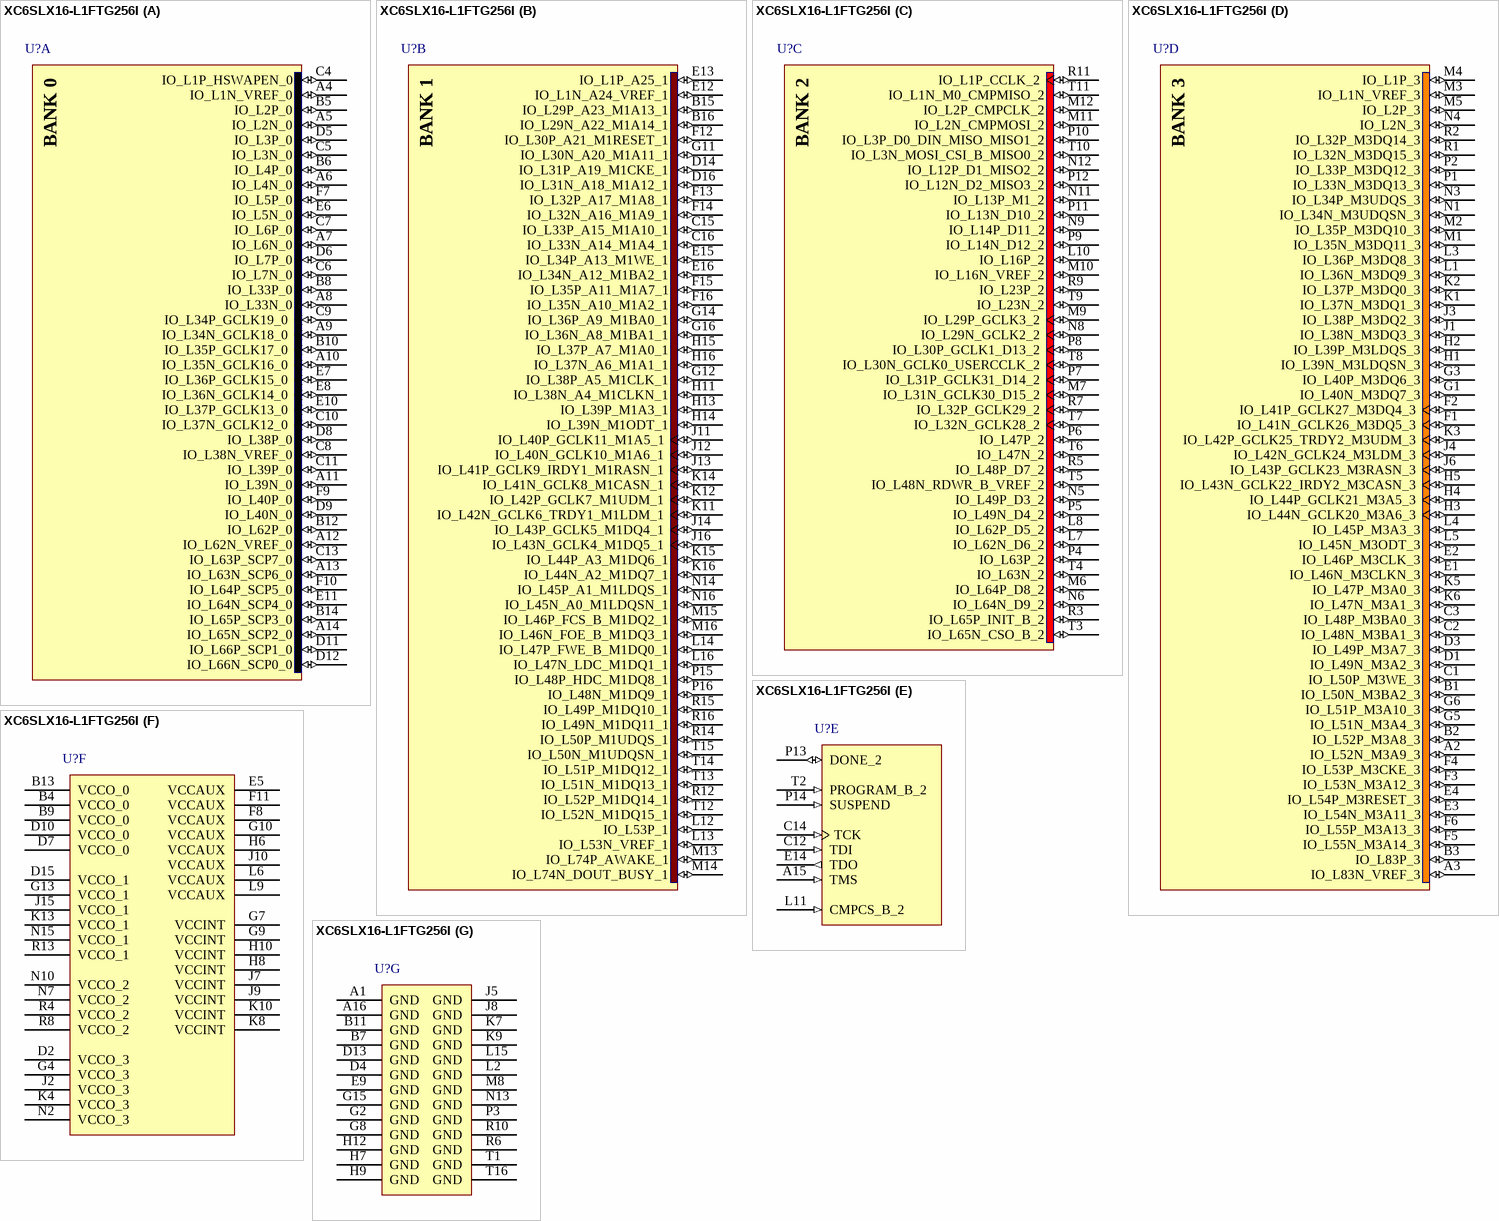
[diagram p22: symbol XC6SLX16-L1FTG256I]

## XC6SLX16-L1FTG256I
designator U?
Spartan-6 LX 1.0V FPGA, 186 User I/Os, 256-Ball Fine-Pitch Thin BGA (1.0mm Pitch), Low Power Version, Industrial Grade, Pb-Free; DatasheetVersion: ver1.6, Nov-2010; PackageVersion: ver1.3, Oct-2007; PackageReference: FTG256; PackageDescription: 256-Ball Fine Pitch Thin Ball Grid Array 1.00 mm Pitch (FTG256) - Pb-Free; Code_JEDEC: MS-034-AAF-1*; ComponentLink1Description: Manufacturer URL; ComponentLink1URL: http://www.xilinx.com/; ComponentLink2Description: Spartan-6 Datasheet; ComponentLink2URL: http://www.xilinx.com/support/documentation/data_sheets/ds160.pdf; ComponentLink3Description: Spartan-6 Documents; ComponentLink3URL: http://www.xilinx.com/support/documentation/spartan-6.htm
footprint FTG256 (BGA, 256-Leads, Body 17x17mm, Pitch 1mm)
part A pins: A4 IO_L1N_VREF_0 (io), A5 IO_L2N_0 (io), A6 IO_L4N_0 (io), A7 IO_L6N_0 (io), A8 IO_L33N_0 (io), A9 IO_L34N_GCLK18_0 (io), A10 IO_L35N_GCLK16_0 (io), A11 IO_L39N_0 (io), A12 IO_L62N_VREF_0 (io), A13 IO_L63N_SCP6_0 (io), A14 IO_L65N_SCP2_0 (io), B5 IO_L2P_0 (io), B6 IO_L4P_0 (io), B8 IO_L33P_0 (io), B10 IO_L35P_GCLK17_0 (io), B12 IO_L62P_0 (io), B14 IO_L65P_SCP3_0 (io), C4 IO_L1P_HSWAPEN_0 (io), C5 IO_L3N_0 (io), C6 IO_L7N_0 (io), C7 IO_L6P_0 (io), C8 IO_L38N_VREF_0 (io), C9 IO_L34P_GCLK19_0 (io), C10 IO_L37N_GCLK12_0 (io), C11 IO_L39P_0 (io), C13 IO_L63P_SCP7_0 (io), D5 IO_L3P_0 (io), D6 IO_L7P_0 (io), D8 IO_L38P_0 (io), D9 IO_L40N_0 (io), D11 IO_L66P_SCP1_0 (io), D12 IO_L66N_SCP0_0 (io), E6 IO_L5N_0 (io), E7 IO_L36P_GCLK15_0 (io), E8 IO_L36N_GCLK14_0 (io), E10 IO_L37P_GCLK13_0 (io), E11 IO_L64N_SCP4_0 (io), F7 IO_L5P_0 (io), F9 IO_L40P_0 (io), F10 IO_L64P_SCP5_0 (io)
part B pins: B15 IO_L29P_A23_M1A13_1 (io), B16 IO_L29N_A22_M1A14_1 (io), C15 IO_L33P_A15_M1A10_1 (io), C16 IO_L33N_A14_M1A4_1 (io), D14 IO_L31P_A19_M1CKE_1 (io), D16 IO_L31N_A18_M1A12_1 (io), E12 IO_L1N_A24_VREF_1 (io), E13 IO_L1P_A25_1 (io), E15 IO_L34P_A13_M1WE_1 (io), E16 IO_L34N_A12_M1BA2_1 (io), F12 IO_L30P_A21_M1RESET_1 (io), F13 IO_L32P_A17_M1A8_1 (io), F14 IO_L32N_A16_M1A9_1 (io), F15 IO_L35P_A11_M1A7_1 (io), F16 IO_L35N_A10_M1A2_1 (io), G11 IO_L30N_A20_M1A11_1 (io), G12 IO_L38P_A5_M1CLK_1 (io), G14 IO_L36P_A9_M1BA0_1 (io), G16 IO_L36N_A8_M1BA1_1 (io), H11 IO_L38N_A4_M1CLKN_1 (io), H13 IO_L39P_M1A3_1 (io), H14 IO_L39N_M1ODT_1 (io), H15 IO_L37P_A7_M1A0_1 (io), H16 IO_L37N_A6_M1A1_1 (io), J11 IO_L40P_GCLK11_M1A5_1 (io), J12 IO_L40N_GCLK10_M1A6_1 (io), J13 IO_L41P_GCLK9_IRDY1_M1RASN_1 (io), J14 IO_L43P_GCLK5_M1DQ4_1 (io), J16 IO_L43N_GCLK4_M1DQ5_1 (io), K11 IO_L42N_GCLK6_TRDY1_M1LDM_1 (io), K12 IO_L42P_GCLK7_M1UDM_1 (io), K14 IO_L41N_GCLK8_M1CASN_1 (io), K15 IO_L44P_A3_M1DQ6_1 (io), K16 IO_L44N_A2_M1DQ7_1 (io), L12 IO_L53P_1 (io), L13 IO_L53N_VREF_1 (io), L14 IO_L47P_FWE_B_M1DQ0_1 (io), L16 IO_L47N_LDC_M1DQ1_1 (io), M13 IO_L74P_AWAKE_1 (io), M14 IO_L74N_DOUT_BUSY_1 (io), M15 IO_L46P_FCS_B_M1DQ2_1 (io), M16 IO_L46N_FOE_B_M1DQ3_1 (io), N14 IO_L45P_A1_M1LDQS_1 (io), N16 IO_L45N_A0_M1LDQSN_1 (io), P15 IO_L48P_HDC_M1DQ8_1 (io), P16 IO_L48N_M1DQ9_1 (io), R12 IO_L52P_M1DQ14_1 (io), R14 IO_L50P_M1UDQS_1 (io), R15 IO_L49P_M1DQ10_1 (io), R16 IO_L49N_M1DQ11_1 (io), T12 IO_L52N_M1DQ15_1 (io), T13 IO_L51N_M1DQ13_1 (io), T14 IO_L51P_M1DQ12_1 (io), T15 IO_L50N_M1UDQSN_1 (io)
part C pins: L7 IO_L62N_D6_2 (io), L8 IO_L62P_D5_2 (io), L10 IO_L16P_2 (io), M6 IO_L64P_D8_2 (io), M7 IO_L31N_GCLK30_D15_2 (io), M9 IO_L29P_GCLK3_2 (io), M10 IO_L16N_VREF_2 (io), M11 IO_L2N_CMPMOSI_2 (io), M12 IO_L2P_CMPCLK_2 (io), N5 IO_L49P_D3_2 (io), N6 IO_L64N_D9_2 (io), N8 IO_L29N_GCLK2_2 (io), N9 IO_L14P_D11_2 (io), N11 IO_L13P_M1_2 (io), N12 IO_L12P_D1_MISO2_2 (io), P4 IO_L63P_2 (io), P5 IO_L49N_D4_2 (io), P6 IO_L47P_2 (io), P7 IO_L31P_GCLK31_D14_2 (io), P8 IO_L30P_GCLK1_D13_2 (io), P9 IO_L14N_D12_2 (io), P10 IO_L3P_D0_DIN_MISO_MISO1_2 (io), P11 IO_L13N_D10_2 (io), P12 IO_L12N_D2_MISO3_2 (io), R3 IO_L65P_INIT_B_2 (io), R5 IO_L48P_D7_2 (io), R7 IO_L32P_GCLK29_2 (io), R9 IO_L23P_2 (io), R11 IO_L1P_CCLK_2 (io), T3 IO_L65N_CSO_B_2 (io), T4 IO_L63N_2 (io), T5 IO_L48N_RDWR_B_VREF_2 (io), T6 IO_L47N_2 (io), T7 IO_L32N_GCLK28_2 (io), T8 IO_L30N_GCLK0_USERCCLK_2 (io), T9 IO_L23N_2 (io), T10 IO_L3N_MOSI_CSI_B_MISO0_2 (io), T11 IO_L1N_M0_CMPMISO_2 (io)
part D pins: A2 IO_L52N_M3A9_3 (io), A3 IO_L83N_VREF_3 (io), B1 IO_L50N_M3BA2_3 (io), B2 IO_L52P_M3A8_3 (io), B3 IO_L83P_3 (io), C1 IO_L50P_M3WE_3 (io), C2 IO_L48N_M3BA1_3 (io), C3 IO_L48P_M3BA0_3 (io), D1 IO_L49N_M3A2_3 (io), D3 IO_L49P_M3A7_3 (io), E1 IO_L46N_M3CLKN_3 (io), E2 IO_L46P_M3CLK_3 (io), E3 IO_L54N_M3A11_3 (io), E4 IO_L54P_M3RESET_3 (io), F1 IO_L41N_GCLK26_M3DQ5_3 (io), F2 IO_L41P_GCLK27_M3DQ4_3 (io), F3 IO_L53N_M3A12_3 (io), F4 IO_L53P_M3CKE_3 (io), F5 IO_L55N_M3A14_3 (io), F6 IO_L55P_M3A13_3 (io), G1 IO_L40N_M3DQ7_3 (io), G3 IO_L40P_M3DQ6_3 (io), G5 IO_L51N_M3A4_3 (io), G6 IO_L51P_M3A10_3 (io), H1 IO_L39N_M3LDQSN_3 (io), H2 IO_L39P_M3LDQS_3 (io), H3 IO_L44N_GCLK20_M3A6_3 (io), H4 IO_L44P_GCLK21_M3A5_3 (io), H5 IO_L43N_GCLK22_IRDY2_M3CASN_3 (io), J1 IO_L38N_M3DQ3_3 (io), J3 IO_L38P_M3DQ2_3 (io), J4 IO_L42N_GCLK24_M3LDM_3 (io), J6 IO_L43P_GCLK23_M3RASN_3 (io), K1 IO_L37N_M3DQ1_3 (io), K2 IO_L37P_M3DQ0_3 (io), K3 IO_L42P_GCLK25_TRDY2_M3UDM_3 (io), K5 IO_L47P_M3A0_3 (io), K6 IO_L47N_M3A1_3 (io), L1 IO_L36N_M3DQ9_3 (io), L3 IO_L36P_M3DQ8_3 (io), L4 IO_L45P_M3A3_3 (io), L5 IO_L45N_M3ODT_3 (io), M1 IO_L35N_M3DQ11_3 (io), M2 IO_L35P_M3DQ10_3 (io), M3 IO_L1N_VREF_3 (io), M4 IO_L1P_3 (io), M5 IO_L2P_3 (io), N1 IO_L34N_M3UDQSN_3 (io), N3 IO_L34P_M3UDQS_3 (io), N4 IO_L2N_3 (io), P1 IO_L33N_M3DQ13_3 (io), P2 IO_L33P_M3DQ12_3 (io), R1 IO_L32N_M3DQ15_3 (io), R2 IO_L32P_M3DQ14_3 (io)
part E pins: A15 TMS (in), C12 TDI (in), C14 TCK (in), E14 TDO (out), L11 CMPCS_B_2 (in), P13 DONE_2 (io), P14 SUSPEND (in), T2 PROGRAM_B_2 (in)
part F pins: B4 VCCO_0 (power), B9 VCCO_0 (power), B13 VCCO_0 (power), D2 VCCO_3 (power), D7 VCCO_0 (power), D10 VCCO_0 (power), D15 VCCO_1 (power), E5 VCCAUX (power), F8 VCCAUX (power), F11 VCCAUX (power), G4 VCCO_3 (power), G7 VCCINT (power), G9 VCCINT (power), G10 VCCAUX (power), G13 VCCO_1 (power), H6 VCCAUX (power), H8 VCCINT (power), H10 VCCINT (power), J2 VCCO_3 (power), J7 VCCINT (power), J9 VCCINT (power), J10 VCCAUX (power), J15 VCCO_1 (power), K4 VCCO_3 (power), K8 VCCINT (power), K10 VCCINT (power), K13 VCCO_1 (power), L6 VCCAUX (power), L9 VCCAUX (power), N2 VCCO_3 (power), N7 VCCO_2 (power), N10 VCCO_2 (power), N15 VCCO_1 (power), R4 VCCO_2 (power), R8 VCCO_2 (power), R13 VCCO_1 (power)
part G pins: A1 GND (power), A16 GND (power), B7 GND (power), B11 GND (power), D4 GND (power), D13 GND (power), E9 GND (power), G2 GND (power), G8 GND (power), G15 GND (power), H7 GND (power), H9 GND (power), H12 GND (power), J5 GND (power), J8 GND (power), K7 GND (power), K9 GND (power), L2 GND (power), L15 GND (power), M8 GND (power), N13 GND (power), P3 GND (power), R6 GND (power), R10 GND (power), T1 GND (power), T16 GND (power)
part A text: BANK 0
part B text: BANK 1
part C text: BANK 2
part D text: BANK 3

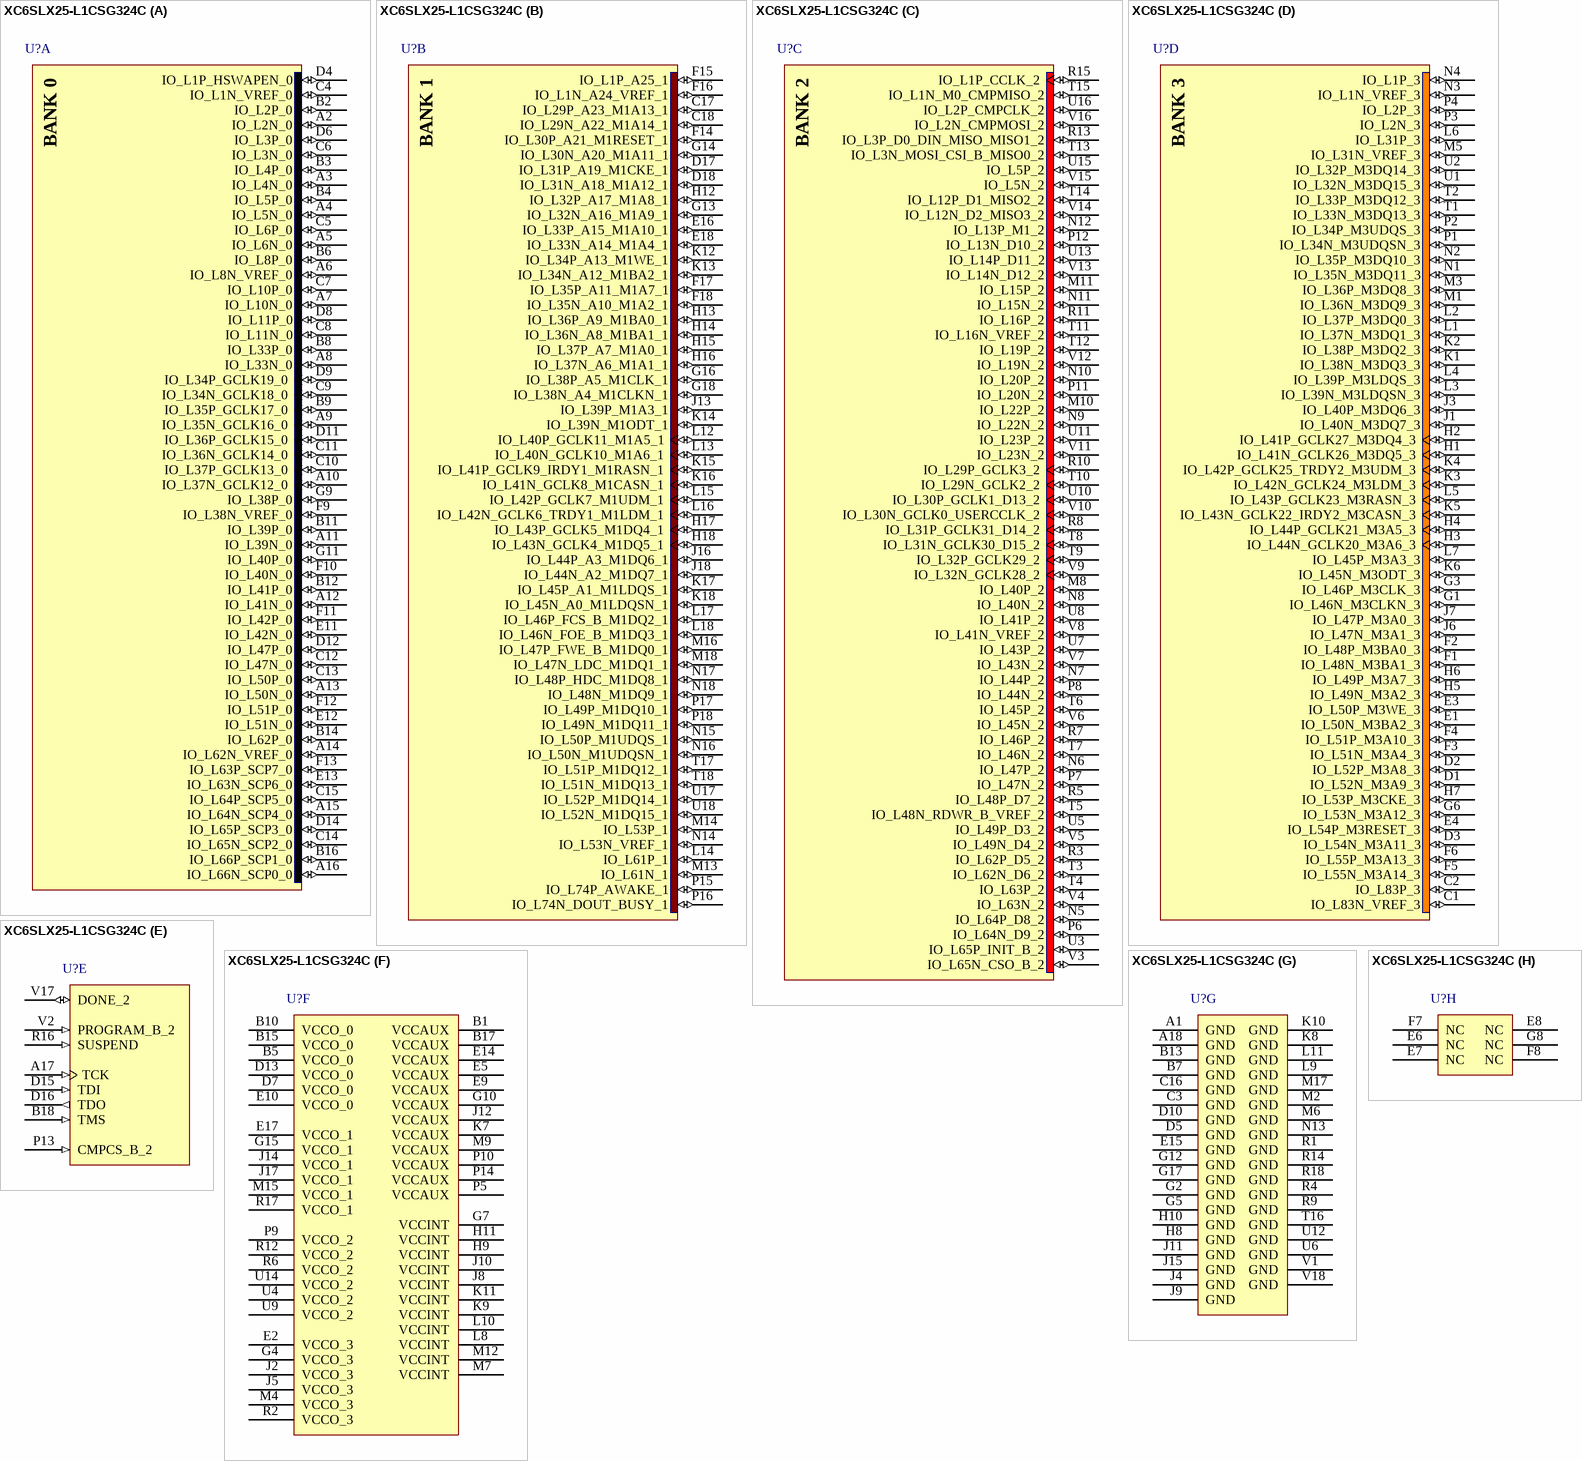
[diagram p23: symbol XC6SLX25-L1CSG324C]

## XC6SLX25-L1CSG324C
designator U?
Spartan-6 LX 1.0V FPGA, 226 User I/Os, 324-Ball Chip-Scale BGA (0.8mm Pitch), Low Power Version, Commercial Grade, Pb-Free; DatasheetVersion: ver1.6, Nov-2010; PackageVersion: ver1.1, Nov-2009; PackageReference: CSG324; PackageDescription: 324-Ball Chip-Scale BGA (CSG324) Package, 0.8 mm Pitch; Code_JEDEC: MO-275-KKAC-1; ComponentLink1Description: Manufacturer URL; ComponentLink1URL: http://www.xilinx.com/; ComponentLink2Description: Spartan-6 Datasheet; ComponentLink2URL: http://www.xilinx.com/support/documentation/data_sheets/ds160.pdf; ComponentLink3Description: Spartan-6 Documents; ComponentLink3URL: http://www.xilinx.com/support/documentation/spartan-6.htm
footprint CSG324 (BGA, 324-Leads, Body 15x15mm, Pitch 0.8mm)
part A pins: A2 IO_L2N_0 (io), A3 IO_L4N_0 (io), A4 IO_L5N_0 (io), A5 IO_L6N_0 (io), A6 IO_L8N_VREF_0 (io), A7 IO_L10N_0 (io), A8 IO_L33N_0 (io), A9 IO_L35N_GCLK16_0 (io), A10 IO_L37N_GCLK12_0 (io), A11 IO_L39N_0 (io), A12 IO_L41N_0 (io), A13 IO_L50N_0 (io), A14 IO_L62N_VREF_0 (io), A15 IO_L64N_SCP4_0 (io), A16 IO_L66N_SCP0_0 (io), B2 IO_L2P_0 (io), B3 IO_L4P_0 (io), B4 IO_L5P_0 (io), B6 IO_L8P_0 (io), B8 IO_L33P_0 (io), B9 IO_L35P_GCLK17_0 (io), B11 IO_L39P_0 (io), B12 IO_L41P_0 (io), B14 IO_L62P_0 (io), B16 IO_L66P_SCP1_0 (io), C4 IO_L1N_VREF_0 (io), C5 IO_L6P_0 (io), C6 IO_L3N_0 (io), C7 IO_L10P_0 (io), C8 IO_L11N_0 (io), C9 IO_L34N_GCLK18_0 (io), C10 IO_L37P_GCLK13_0 (io), C11 IO_L36N_GCLK14_0 (io), C12 IO_L47N_0 (io), C13 IO_L50P_0 (io), C14 IO_L65N_SCP2_0 (io), C15 IO_L64P_SCP5_0 (io), D4 IO_L1P_HSWAPEN_0 (io), D6 IO_L3P_0 (io), D8 IO_L11P_0 (io), D9 IO_L34P_GCLK19_0 (io), D11 IO_L36P_GCLK15_0 (io), D12 IO_L47P_0 (io), D14 IO_L65P_SCP3_0 (io), E11 IO_L42N_0 (io), E12 IO_L51N_0 (io), E13 IO_L63N_SCP6_0 (io), F9 IO_L38N_VREF_0 (io), F10 IO_L40N_0 (io), F11 IO_L42P_0 (io), F12 IO_L51P_0 (io), F13 IO_L63P_SCP7_0 (io), G9 IO_L38P_0 (io), G11 IO_L40P_0 (io)
part B pins: C17 IO_L29P_A23_M1A13_1 (io), C18 IO_L29N_A22_M1A14_1 (io), D17 IO_L31P_A19_M1CKE_1 (io), D18 IO_L31N_A18_M1A12_1 (io), E16 IO_L33P_A15_M1A10_1 (io), E18 IO_L33N_A14_M1A4_1 (io), F14 IO_L30P_A21_M1RESET_1 (io), F15 IO_L1P_A25_1 (io), F16 IO_L1N_A24_VREF_1 (io), F17 IO_L35P_A11_M1A7_1 (io), F18 IO_L35N_A10_M1A2_1 (io), G13 IO_L32N_A16_M1A9_1 (io), G14 IO_L30N_A20_M1A11_1 (io), G16 IO_L38P_A5_M1CLK_1 (io), G18 IO_L38N_A4_M1CLKN_1 (io), H12 IO_L32P_A17_M1A8_1 (io), H13 IO_L36P_A9_M1BA0_1 (io), H14 IO_L36N_A8_M1BA1_1 (io), H15 IO_L37P_A7_M1A0_1 (io), H16 IO_L37N_A6_M1A1_1 (io), H17 IO_L43P_GCLK5_M1DQ4_1 (io), H18 IO_L43N_GCLK4_M1DQ5_1 (io), J13 IO_L39P_M1A3_1 (io), J16 IO_L44P_A3_M1DQ6_1 (io), J18 IO_L44N_A2_M1DQ7_1 (io), K12 IO_L34P_A13_M1WE_1 (io), K13 IO_L34N_A12_M1BA2_1 (io), K14 IO_L39N_M1ODT_1 (io), K15 IO_L41P_GCLK9_IRDY1_M1RASN_1 (io), K16 IO_L41N_GCLK8_M1CASN_1 (io), K17 IO_L45P_A1_M1LDQS_1 (io), K18 IO_L45N_A0_M1LDQSN_1 (io), L12 IO_L40P_GCLK11_M1A5_1 (io), L13 IO_L40N_GCLK10_M1A6_1 (io), L14 IO_L61P_1 (io), L15 IO_L42P_GCLK7_M1UDM_1 (io), L16 IO_L42N_GCLK6_TRDY1_M1LDM_1 (io), L17 IO_L46P_FCS_B_M1DQ2_1 (io), L18 IO_L46N_FOE_B_M1DQ3_1 (io), M13 IO_L61N_1 (io), M14 IO_L53P_1 (io), M16 IO_L47P_FWE_B_M1DQ0_1 (io), M18 IO_L47N_LDC_M1DQ1_1 (io), N14 IO_L53N_VREF_1 (io), N15 IO_L50P_M1UDQS_1 (io), N16 IO_L50N_M1UDQSN_1 (io), N17 IO_L48P_HDC_M1DQ8_1 (io), N18 IO_L48N_M1DQ9_1 (io), P15 IO_L74P_AWAKE_1 (io), P16 IO_L74N_DOUT_BUSY_1 (io), P17 IO_L49P_M1DQ10_1 (io), P18 IO_L49N_M1DQ11_1 (io), T17 IO_L51P_M1DQ12_1 (io), T18 IO_L51N_M1DQ13_1 (io), U17 IO_L52P_M1DQ14_1 (io), U18 IO_L52N_M1DQ15_1 (io)
part C pins: M8 IO_L40P_2 (io), M10 IO_L22P_2 (io), M11 IO_L15P_2 (io), N5 IO_L64P_D8_2 (io), N6 IO_L47P_2 (io), N7 IO_L44P_2 (io), N8 IO_L40N_2 (io), N9 IO_L22N_2 (io), N10 IO_L20P_2 (io), N11 IO_L15N_2 (io), N12 IO_L13P_M1_2 (io), P6 IO_L64N_D9_2 (io), P7 IO_L47N_2 (io), P8 IO_L44N_2 (io), P11 IO_L20N_2 (io), P12 IO_L13N_D10_2 (io), R3 IO_L62P_D5_2 (io), R5 IO_L48P_D7_2 (io), R7 IO_L46P_2 (io), R8 IO_L31P_GCLK31_D14_2 (io), R10 IO_L29P_GCLK3_2 (io), R11 IO_L16P_2 (io), R13 IO_L3P_D0_DIN_MISO_MISO1_2 (io), R15 IO_L1P_CCLK_2 (io), T3 IO_L62N_D6_2 (io), T4 IO_L63P_2 (io), T5 IO_L48N_RDWR_B_VREF_2 (io), T6 IO_L45P_2 (io), T7 IO_L46N_2 (io), T8 IO_L31N_GCLK30_D15_2 (io), T9 IO_L32P_GCLK29_2 (io), T10 IO_L29N_GCLK2_2 (io), T11 IO_L16N_VREF_2 (io), T12 IO_L19P_2 (io), T13 IO_L3N_MOSI_CSI_B_MISO0_2 (io), T14 IO_L12P_D1_MISO2_2 (io), T15 IO_L1N_M0_CMPMISO_2 (io), U3 IO_L65P_INIT_B_2 (io), U5 IO_L49P_D3_2 (io), U7 IO_L43P_2 (io), U8 IO_L41P_2 (io), U10 IO_L30P_GCLK1_D13_2 (io), U11 IO_L23P_2 (io), U13 IO_L14P_D11_2 (io), U15 IO_L5P_2 (io), U16 IO_L2P_CMPCLK_2 (io), V3 IO_L65N_CSO_B_2 (io), V4 IO_L63N_2 (io), V5 IO_L49N_D4_2 (io), V6 IO_L45N_2 (io), V7 IO_L43N_2 (io), V8 IO_L41N_VREF_2 (io), V9 IO_L32N_GCLK28_2 (io), V10 IO_L30N_GCLK0_USERCCLK_2 (io), V11 IO_L23N_2 (io), V12 IO_L19N_2 (io), V13 IO_L14N_D12_2 (io), V14 IO_L12N_D2_MISO3_2 (io), V15 IO_L5N_2 (io), V16 IO_L2N_CMPMOSI_2 (io)
part D pins: C1 IO_L83N_VREF_3 (io), C2 IO_L83P_3 (io), D1 IO_L52N_M3A9_3 (io), D2 IO_L52P_M3A8_3 (io), D3 IO_L54N_M3A11_3 (io), E1 IO_L50N_M3BA2_3 (io), E3 IO_L50P_M3WE_3 (io), E4 IO_L54P_M3RESET_3 (io), F1 IO_L48N_M3BA1_3 (io), F2 IO_L48P_M3BA0_3 (io), F3 IO_L51N_M3A4_3 (io), F4 IO_L51P_M3A10_3 (io), F5 IO_L55N_M3A14_3 (io), F6 IO_L55P_M3A13_3 (io), G1 IO_L46N_M3CLKN_3 (io), G3 IO_L46P_M3CLK_3 (io), G6 IO_L53N_M3A12_3 (io), H1 IO_L41N_GCLK26_M3DQ5_3 (io), H2 IO_L41P_GCLK27_M3DQ4_3 (io), H3 IO_L44N_GCLK20_M3A6_3 (io), H4 IO_L44P_GCLK21_M3A5_3 (io), H5 IO_L49N_M3A2_3 (io), H6 IO_L49P_M3A7_3 (io), H7 IO_L53P_M3CKE_3 (io), J1 IO_L40N_M3DQ7_3 (io), J3 IO_L40P_M3DQ6_3 (io), J6 IO_L47N_M3A1_3 (io), J7 IO_L47P_M3A0_3 (io), K1 IO_L38N_M3DQ3_3 (io), K2 IO_L38P_M3DQ2_3 (io), K3 IO_L42N_GCLK24_M3LDM_3 (io), K4 IO_L42P_GCLK25_TRDY2_M3UDM_3 (io), K5 IO_L43N_GCLK22_IRDY2_M3CASN_3 (io), K6 IO_L45N_M3ODT_3 (io), L1 IO_L37N_M3DQ1_3 (io), L2 IO_L37P_M3DQ0_3 (io), L3 IO_L39N_M3LDQSN_3 (io), L4 IO_L39P_M3LDQS_3 (io), L5 IO_L43P_GCLK23_M3RASN_3 (io), L6 IO_L31P_3 (io), L7 IO_L45P_M3A3_3 (io), M1 IO_L36N_M3DQ9_3 (io), M3 IO_L36P_M3DQ8_3 (io), M5 IO_L31N_VREF_3 (io), N1 IO_L35N_M3DQ11_3 (io), N2 IO_L35P_M3DQ10_3 (io), N3 IO_L1N_VREF_3 (io), N4 IO_L1P_3 (io), P1 IO_L34N_M3UDQSN_3 (io), P2 IO_L34P_M3UDQS_3 (io), P3 IO_L2N_3 (io), P4 IO_L2P_3 (io), T1 IO_L33N_M3DQ13_3 (io), T2 IO_L33P_M3DQ12_3 (io), U1 IO_L32N_M3DQ15_3 (io), U2 IO_L32P_M3DQ14_3 (io)
part E pins: A17 TCK (in), B18 TMS (in), D15 TDI (in), D16 TDO (out), P13 CMPCS_B_2 (in), R16 SUSPEND (in), V2 PROGRAM_B_2 (in), V17 DONE_2 (io)
part F pins: B1 VCCAUX (power), B5 VCCO_0 (power), B10 VCCO_0 (power), B15 VCCO_0 (power), B17 VCCAUX (power), D7 VCCO_0 (power), D13 VCCO_0 (power), E2 VCCO_3 (power), E5 VCCAUX (power), E9 VCCAUX (power), E10 VCCO_0 (power), E14 VCCAUX (power), E17 VCCO_1 (power), G4 VCCO_3 (power), G7 VCCINT (power), G10 VCCAUX (power), G15 VCCO_1 (power), H9 VCCINT (power), H11 VCCINT (power), J2 VCCO_3 (power), J5 VCCO_3 (power), J8 VCCINT (power), J10 VCCINT (power), J12 VCCAUX (power), J14 VCCO_1 (power), J17 VCCO_1 (power), K7 VCCAUX (power), K9 VCCINT (power), K11 VCCINT (power), L8 VCCINT (power), L10 VCCINT (power), M4 VCCO_3 (power), M7 VCCINT (power), M9 VCCAUX (power), M12 VCCINT (power), M15 VCCO_1 (power), P5 VCCAUX (power), P9 VCCO_2 (power), P10 VCCAUX (power), P14 VCCAUX (power), R2 VCCO_3 (power), R6 VCCO_2 (power), R12 VCCO_2 (power), R17 VCCO_1 (power), U4 VCCO_2 (power), U9 VCCO_2 (power), U14 VCCO_2 (power)
part G pins: A1 GND (power), A18 GND (power), B7 GND (power), B13 GND (power), C3 GND (power), C16 GND (power), D5 GND (power), D10 GND (power), E15 GND (power), G2 GND (power), G5 GND (power), G12 GND (power), G17 GND (power), H8 GND (power), H10 GND (power), J4 GND (power), J9 GND (power), J11 GND (power), J15 GND (power), K8 GND (power), K10 GND (power), L9 GND (power), L11 GND (power), M2 GND (power), M6 GND (power), M17 GND (power), N13 GND (power), R1 GND (power), R4 GND (power), R9 GND (power), R14 GND (power), R18 GND (power), T16 GND (power), U6 GND (power), U12 GND (power), V1 GND (power), V18 GND (power)
part H pins: E6 NC, E7 NC, E8 NC, F7 NC, F8 NC, G8 NC
part A text: BANK 0
part B text: BANK 1
part C text: BANK 2
part D text: BANK 3

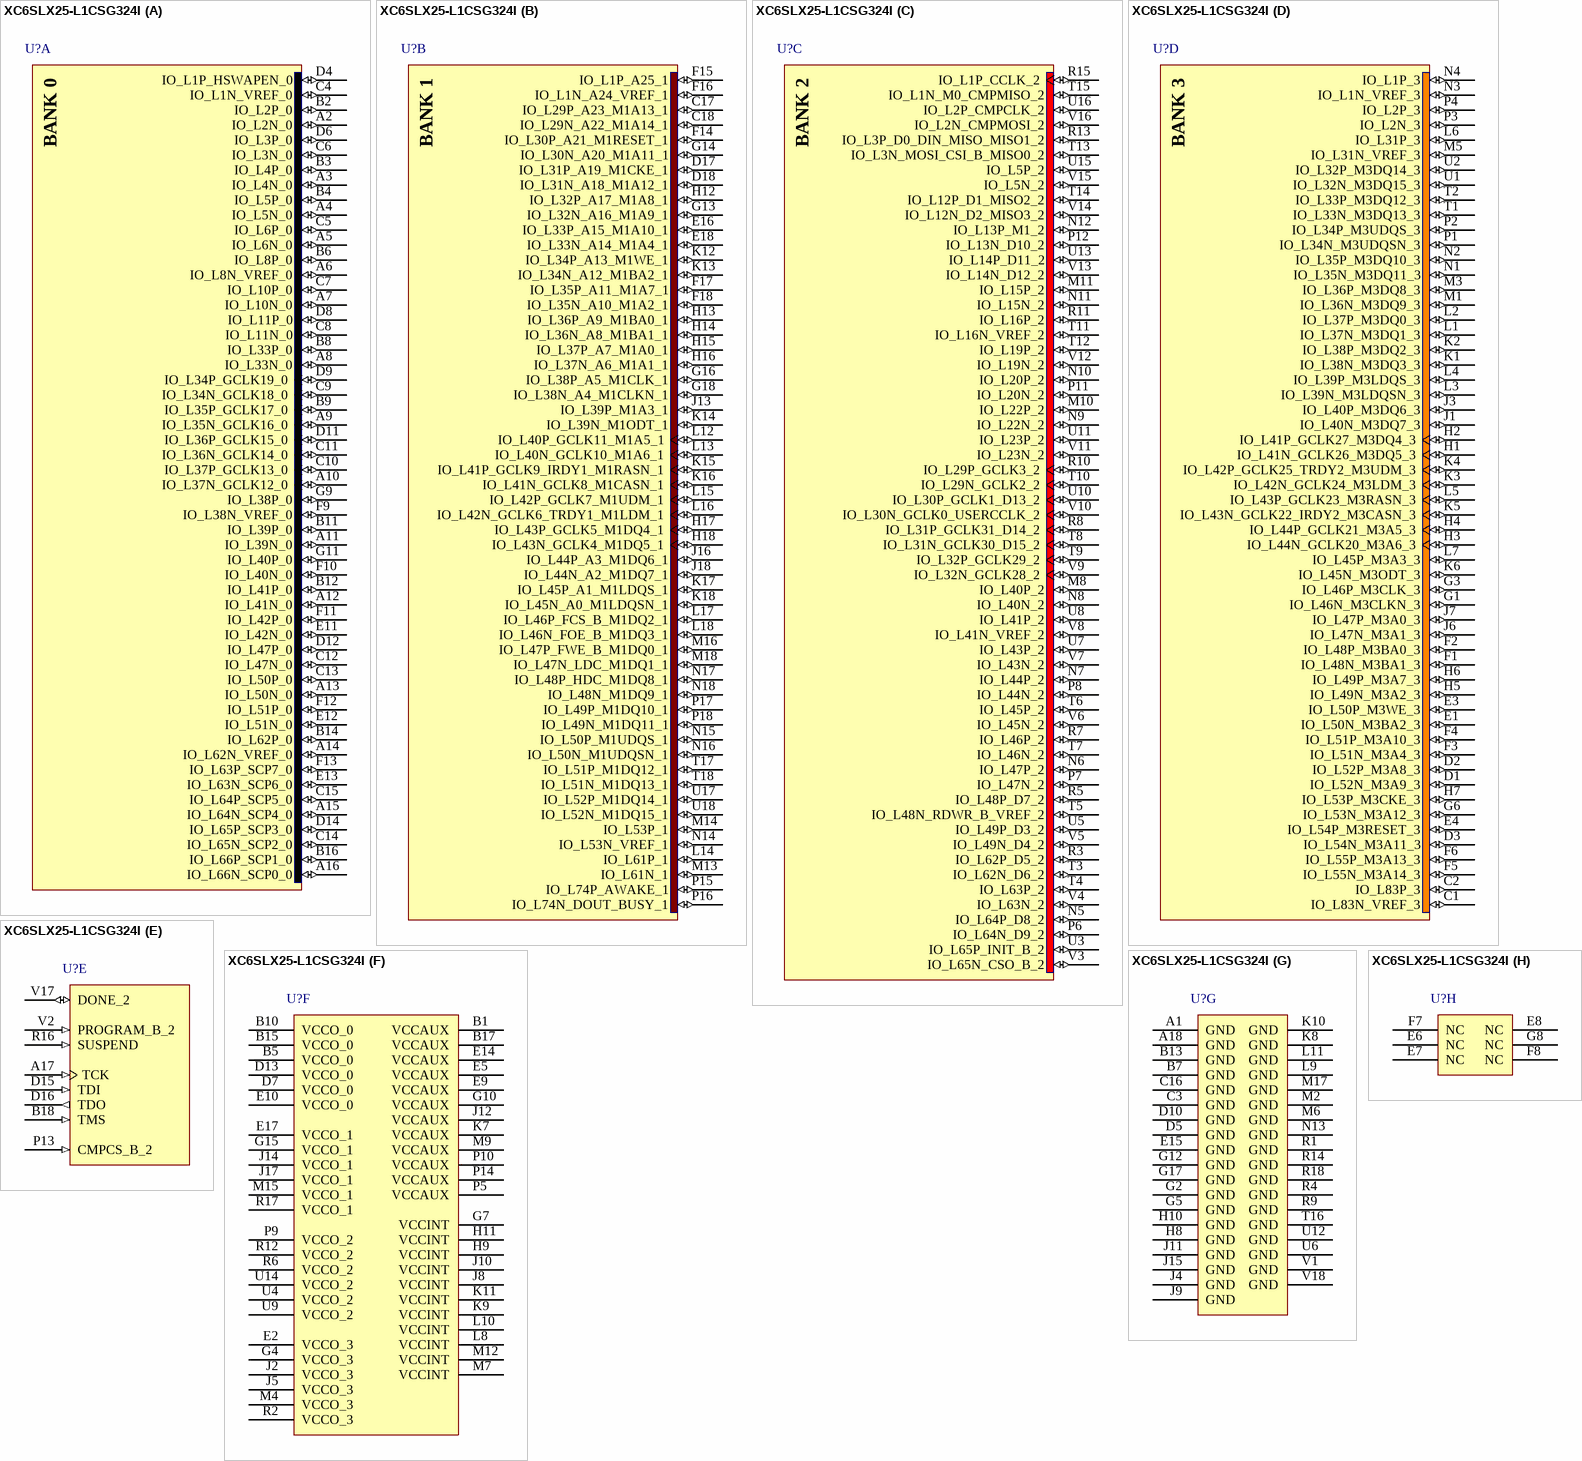
[diagram p24: symbol XC6SLX25-L1CSG324I]

## XC6SLX25-L1CSG324I
designator U?
Spartan-6 LX 1.0V FPGA, 226 User I/Os, 324-Ball Chip-Scale BGA (0.8mm Pitch), Low Power Version, Industrial Grade, Pb-Free; DatasheetVersion: ver1.6, Nov-2010; PackageVersion: ver1.1, Nov-2009; PackageReference: CSG324; PackageDescription: 324-Ball Chip-Scale BGA (CSG324) Package, 0.8 mm Pitch; Code_JEDEC: MO-275-KKAC-1; ComponentLink1Description: Manufacturer URL; ComponentLink1URL: http://www.xilinx.com/; ComponentLink2Description: Spartan-6 Datasheet; ComponentLink2URL: http://www.xilinx.com/support/documentation/data_sheets/ds160.pdf; ComponentLink3Description: Spartan-6 Documents; ComponentLink3URL: http://www.xilinx.com/support/documentation/spartan-6.htm
footprint CSG324 (BGA, 324-Leads, Body 15x15mm, Pitch 0.8mm)
part A pins: A2 IO_L2N_0 (io), A3 IO_L4N_0 (io), A4 IO_L5N_0 (io), A5 IO_L6N_0 (io), A6 IO_L8N_VREF_0 (io), A7 IO_L10N_0 (io), A8 IO_L33N_0 (io), A9 IO_L35N_GCLK16_0 (io), A10 IO_L37N_GCLK12_0 (io), A11 IO_L39N_0 (io), A12 IO_L41N_0 (io), A13 IO_L50N_0 (io), A14 IO_L62N_VREF_0 (io), A15 IO_L64N_SCP4_0 (io), A16 IO_L66N_SCP0_0 (io), B2 IO_L2P_0 (io), B3 IO_L4P_0 (io), B4 IO_L5P_0 (io), B6 IO_L8P_0 (io), B8 IO_L33P_0 (io), B9 IO_L35P_GCLK17_0 (io), B11 IO_L39P_0 (io), B12 IO_L41P_0 (io), B14 IO_L62P_0 (io), B16 IO_L66P_SCP1_0 (io), C4 IO_L1N_VREF_0 (io), C5 IO_L6P_0 (io), C6 IO_L3N_0 (io), C7 IO_L10P_0 (io), C8 IO_L11N_0 (io), C9 IO_L34N_GCLK18_0 (io), C10 IO_L37P_GCLK13_0 (io), C11 IO_L36N_GCLK14_0 (io), C12 IO_L47N_0 (io), C13 IO_L50P_0 (io), C14 IO_L65N_SCP2_0 (io), C15 IO_L64P_SCP5_0 (io), D4 IO_L1P_HSWAPEN_0 (io), D6 IO_L3P_0 (io), D8 IO_L11P_0 (io), D9 IO_L34P_GCLK19_0 (io), D11 IO_L36P_GCLK15_0 (io), D12 IO_L47P_0 (io), D14 IO_L65P_SCP3_0 (io), E11 IO_L42N_0 (io), E12 IO_L51N_0 (io), E13 IO_L63N_SCP6_0 (io), F9 IO_L38N_VREF_0 (io), F10 IO_L40N_0 (io), F11 IO_L42P_0 (io), F12 IO_L51P_0 (io), F13 IO_L63P_SCP7_0 (io), G9 IO_L38P_0 (io), G11 IO_L40P_0 (io)
part B pins: C17 IO_L29P_A23_M1A13_1 (io), C18 IO_L29N_A22_M1A14_1 (io), D17 IO_L31P_A19_M1CKE_1 (io), D18 IO_L31N_A18_M1A12_1 (io), E16 IO_L33P_A15_M1A10_1 (io), E18 IO_L33N_A14_M1A4_1 (io), F14 IO_L30P_A21_M1RESET_1 (io), F15 IO_L1P_A25_1 (io), F16 IO_L1N_A24_VREF_1 (io), F17 IO_L35P_A11_M1A7_1 (io), F18 IO_L35N_A10_M1A2_1 (io), G13 IO_L32N_A16_M1A9_1 (io), G14 IO_L30N_A20_M1A11_1 (io), G16 IO_L38P_A5_M1CLK_1 (io), G18 IO_L38N_A4_M1CLKN_1 (io), H12 IO_L32P_A17_M1A8_1 (io), H13 IO_L36P_A9_M1BA0_1 (io), H14 IO_L36N_A8_M1BA1_1 (io), H15 IO_L37P_A7_M1A0_1 (io), H16 IO_L37N_A6_M1A1_1 (io), H17 IO_L43P_GCLK5_M1DQ4_1 (io), H18 IO_L43N_GCLK4_M1DQ5_1 (io), J13 IO_L39P_M1A3_1 (io), J16 IO_L44P_A3_M1DQ6_1 (io), J18 IO_L44N_A2_M1DQ7_1 (io), K12 IO_L34P_A13_M1WE_1 (io), K13 IO_L34N_A12_M1BA2_1 (io), K14 IO_L39N_M1ODT_1 (io), K15 IO_L41P_GCLK9_IRDY1_M1RASN_1 (io), K16 IO_L41N_GCLK8_M1CASN_1 (io), K17 IO_L45P_A1_M1LDQS_1 (io), K18 IO_L45N_A0_M1LDQSN_1 (io), L12 IO_L40P_GCLK11_M1A5_1 (io), L13 IO_L40N_GCLK10_M1A6_1 (io), L14 IO_L61P_1 (io), L15 IO_L42P_GCLK7_M1UDM_1 (io), L16 IO_L42N_GCLK6_TRDY1_M1LDM_1 (io), L17 IO_L46P_FCS_B_M1DQ2_1 (io), L18 IO_L46N_FOE_B_M1DQ3_1 (io), M13 IO_L61N_1 (io), M14 IO_L53P_1 (io), M16 IO_L47P_FWE_B_M1DQ0_1 (io), M18 IO_L47N_LDC_M1DQ1_1 (io), N14 IO_L53N_VREF_1 (io), N15 IO_L50P_M1UDQS_1 (io), N16 IO_L50N_M1UDQSN_1 (io), N17 IO_L48P_HDC_M1DQ8_1 (io), N18 IO_L48N_M1DQ9_1 (io), P15 IO_L74P_AWAKE_1 (io), P16 IO_L74N_DOUT_BUSY_1 (io), P17 IO_L49P_M1DQ10_1 (io), P18 IO_L49N_M1DQ11_1 (io), T17 IO_L51P_M1DQ12_1 (io), T18 IO_L51N_M1DQ13_1 (io), U17 IO_L52P_M1DQ14_1 (io), U18 IO_L52N_M1DQ15_1 (io)
part C pins: M8 IO_L40P_2 (io), M10 IO_L22P_2 (io), M11 IO_L15P_2 (io), N5 IO_L64P_D8_2 (io), N6 IO_L47P_2 (io), N7 IO_L44P_2 (io), N8 IO_L40N_2 (io), N9 IO_L22N_2 (io), N10 IO_L20P_2 (io), N11 IO_L15N_2 (io), N12 IO_L13P_M1_2 (io), P6 IO_L64N_D9_2 (io), P7 IO_L47N_2 (io), P8 IO_L44N_2 (io), P11 IO_L20N_2 (io), P12 IO_L13N_D10_2 (io), R3 IO_L62P_D5_2 (io), R5 IO_L48P_D7_2 (io), R7 IO_L46P_2 (io), R8 IO_L31P_GCLK31_D14_2 (io), R10 IO_L29P_GCLK3_2 (io), R11 IO_L16P_2 (io), R13 IO_L3P_D0_DIN_MISO_MISO1_2 (io), R15 IO_L1P_CCLK_2 (io), T3 IO_L62N_D6_2 (io), T4 IO_L63P_2 (io), T5 IO_L48N_RDWR_B_VREF_2 (io), T6 IO_L45P_2 (io), T7 IO_L46N_2 (io), T8 IO_L31N_GCLK30_D15_2 (io), T9 IO_L32P_GCLK29_2 (io), T10 IO_L29N_GCLK2_2 (io), T11 IO_L16N_VREF_2 (io), T12 IO_L19P_2 (io), T13 IO_L3N_MOSI_CSI_B_MISO0_2 (io), T14 IO_L12P_D1_MISO2_2 (io), T15 IO_L1N_M0_CMPMISO_2 (io), U3 IO_L65P_INIT_B_2 (io), U5 IO_L49P_D3_2 (io), U7 IO_L43P_2 (io), U8 IO_L41P_2 (io), U10 IO_L30P_GCLK1_D13_2 (io), U11 IO_L23P_2 (io), U13 IO_L14P_D11_2 (io), U15 IO_L5P_2 (io), U16 IO_L2P_CMPCLK_2 (io), V3 IO_L65N_CSO_B_2 (io), V4 IO_L63N_2 (io), V5 IO_L49N_D4_2 (io), V6 IO_L45N_2 (io), V7 IO_L43N_2 (io), V8 IO_L41N_VREF_2 (io), V9 IO_L32N_GCLK28_2 (io), V10 IO_L30N_GCLK0_USERCCLK_2 (io), V11 IO_L23N_2 (io), V12 IO_L19N_2 (io), V13 IO_L14N_D12_2 (io), V14 IO_L12N_D2_MISO3_2 (io), V15 IO_L5N_2 (io), V16 IO_L2N_CMPMOSI_2 (io)
part D pins: C1 IO_L83N_VREF_3 (io), C2 IO_L83P_3 (io), D1 IO_L52N_M3A9_3 (io), D2 IO_L52P_M3A8_3 (io), D3 IO_L54N_M3A11_3 (io), E1 IO_L50N_M3BA2_3 (io), E3 IO_L50P_M3WE_3 (io), E4 IO_L54P_M3RESET_3 (io), F1 IO_L48N_M3BA1_3 (io), F2 IO_L48P_M3BA0_3 (io), F3 IO_L51N_M3A4_3 (io), F4 IO_L51P_M3A10_3 (io), F5 IO_L55N_M3A14_3 (io), F6 IO_L55P_M3A13_3 (io), G1 IO_L46N_M3CLKN_3 (io), G3 IO_L46P_M3CLK_3 (io), G6 IO_L53N_M3A12_3 (io), H1 IO_L41N_GCLK26_M3DQ5_3 (io), H2 IO_L41P_GCLK27_M3DQ4_3 (io), H3 IO_L44N_GCLK20_M3A6_3 (io), H4 IO_L44P_GCLK21_M3A5_3 (io), H5 IO_L49N_M3A2_3 (io), H6 IO_L49P_M3A7_3 (io), H7 IO_L53P_M3CKE_3 (io), J1 IO_L40N_M3DQ7_3 (io), J3 IO_L40P_M3DQ6_3 (io), J6 IO_L47N_M3A1_3 (io), J7 IO_L47P_M3A0_3 (io), K1 IO_L38N_M3DQ3_3 (io), K2 IO_L38P_M3DQ2_3 (io), K3 IO_L42N_GCLK24_M3LDM_3 (io), K4 IO_L42P_GCLK25_TRDY2_M3UDM_3 (io), K5 IO_L43N_GCLK22_IRDY2_M3CASN_3 (io), K6 IO_L45N_M3ODT_3 (io), L1 IO_L37N_M3DQ1_3 (io), L2 IO_L37P_M3DQ0_3 (io), L3 IO_L39N_M3LDQSN_3 (io), L4 IO_L39P_M3LDQS_3 (io), L5 IO_L43P_GCLK23_M3RASN_3 (io), L6 IO_L31P_3 (io), L7 IO_L45P_M3A3_3 (io), M1 IO_L36N_M3DQ9_3 (io), M3 IO_L36P_M3DQ8_3 (io), M5 IO_L31N_VREF_3 (io), N1 IO_L35N_M3DQ11_3 (io), N2 IO_L35P_M3DQ10_3 (io), N3 IO_L1N_VREF_3 (io), N4 IO_L1P_3 (io), P1 IO_L34N_M3UDQSN_3 (io), P2 IO_L34P_M3UDQS_3 (io), P3 IO_L2N_3 (io), P4 IO_L2P_3 (io), T1 IO_L33N_M3DQ13_3 (io), T2 IO_L33P_M3DQ12_3 (io), U1 IO_L32N_M3DQ15_3 (io), U2 IO_L32P_M3DQ14_3 (io)
part E pins: A17 TCK (in), B18 TMS (in), D15 TDI (in), D16 TDO (out), P13 CMPCS_B_2 (in), R16 SUSPEND (in), V2 PROGRAM_B_2 (in), V17 DONE_2 (io)
part F pins: B1 VCCAUX (power), B5 VCCO_0 (power), B10 VCCO_0 (power), B15 VCCO_0 (power), B17 VCCAUX (power), D7 VCCO_0 (power), D13 VCCO_0 (power), E2 VCCO_3 (power), E5 VCCAUX (power), E9 VCCAUX (power), E10 VCCO_0 (power), E14 VCCAUX (power), E17 VCCO_1 (power), G4 VCCO_3 (power), G7 VCCINT (power), G10 VCCAUX (power), G15 VCCO_1 (power), H9 VCCINT (power), H11 VCCINT (power), J2 VCCO_3 (power), J5 VCCO_3 (power), J8 VCCINT (power), J10 VCCINT (power), J12 VCCAUX (power), J14 VCCO_1 (power), J17 VCCO_1 (power), K7 VCCAUX (power), K9 VCCINT (power), K11 VCCINT (power), L8 VCCINT (power), L10 VCCINT (power), M4 VCCO_3 (power), M7 VCCINT (power), M9 VCCAUX (power), M12 VCCINT (power), M15 VCCO_1 (power), P5 VCCAUX (power), P9 VCCO_2 (power), P10 VCCAUX (power), P14 VCCAUX (power), R2 VCCO_3 (power), R6 VCCO_2 (power), R12 VCCO_2 (power), R17 VCCO_1 (power), U4 VCCO_2 (power), U9 VCCO_2 (power), U14 VCCO_2 (power)
part G pins: A1 GND (power), A18 GND (power), B7 GND (power), B13 GND (power), C3 GND (power), C16 GND (power), D5 GND (power), D10 GND (power), E15 GND (power), G2 GND (power), G5 GND (power), G12 GND (power), G17 GND (power), H8 GND (power), H10 GND (power), J4 GND (power), J9 GND (power), J11 GND (power), J15 GND (power), K8 GND (power), K10 GND (power), L9 GND (power), L11 GND (power), M2 GND (power), M6 GND (power), M17 GND (power), N13 GND (power), R1 GND (power), R4 GND (power), R9 GND (power), R14 GND (power), R18 GND (power), T16 GND (power), U6 GND (power), U12 GND (power), V1 GND (power), V18 GND (power)
part H pins: E6 NC, E7 NC, E8 NC, F7 NC, F8 NC, G8 NC
part A text: BANK 0
part B text: BANK 1
part C text: BANK 2
part D text: BANK 3

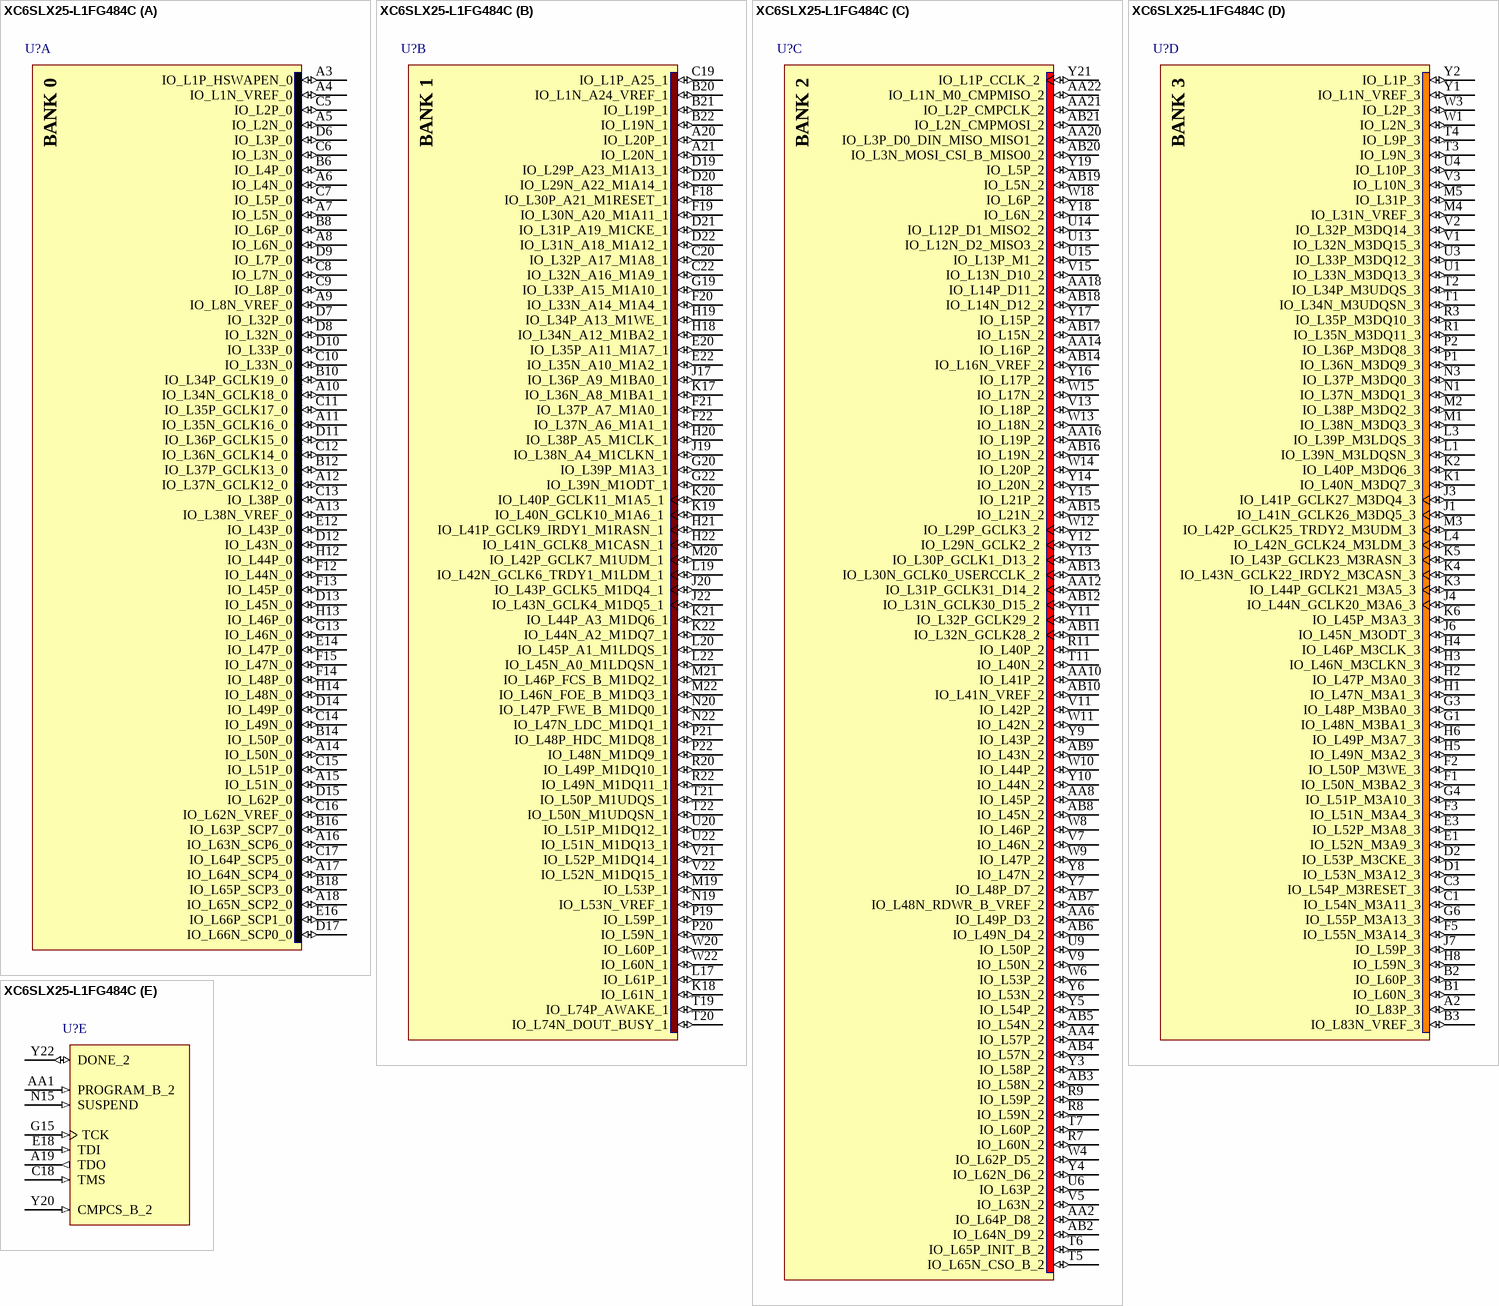
[diagram p25: symbol XC6SLX25-L1FG484C]

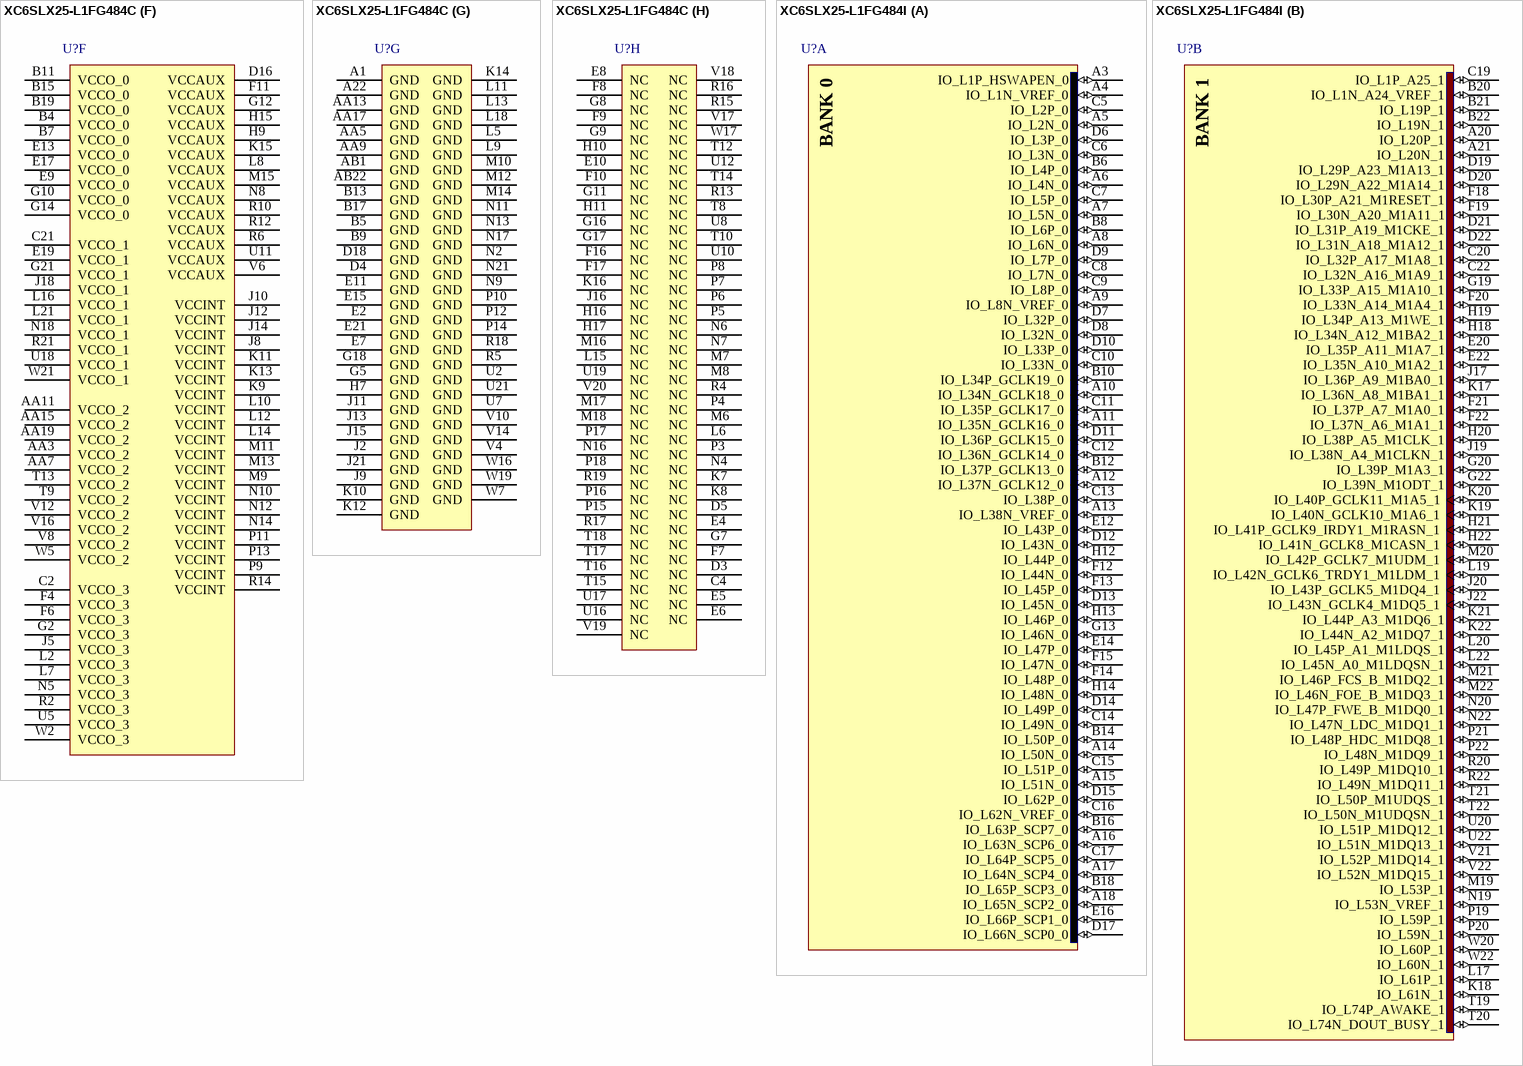
[diagram p26: symbols XC6SLX25-L1FG484C to XC6SLX25-L1FG484I]